# Altium integrated library Actel ACT 3.IntLib: 322 symbols (part 8 of 21)
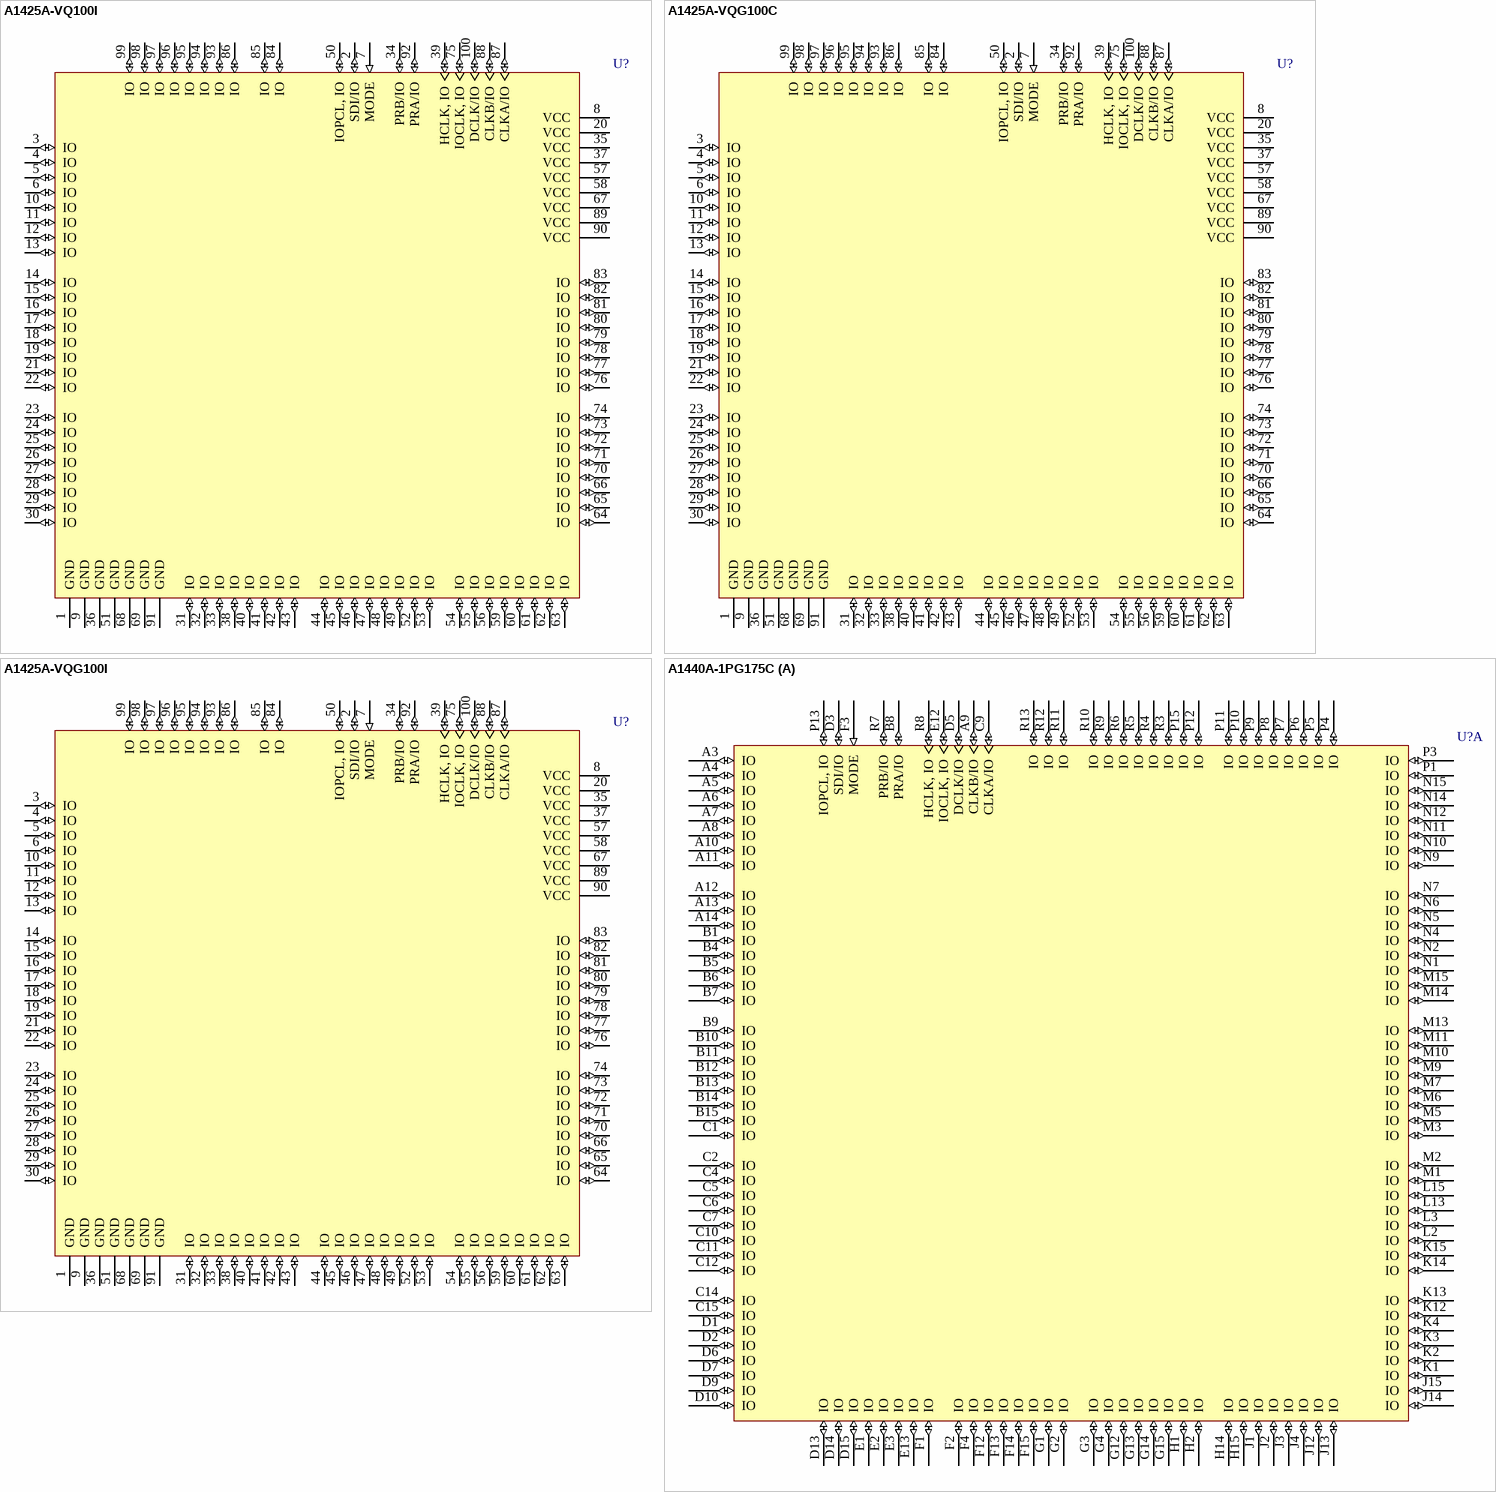
[diagram p224: symbols A1425A-VQ100I to A1440A-1PG175C]

## A1425A-VQG100I
designator U?
ACT 3 Series 5V FPGA, 83 User I/Os, 100 pin Very Thin QFP, Standard Speed Grade, Industrial Grade, Pb-Free; Published: 11-Dec-2009; DatasheetVersion: Sep-1997; PackageVersion: ver11.2, Nov-2009; PackageReference: VQ100; Publisher: Altium Limited; PackageDescription: 100-Pin Plastic Quad Flat Pack (VQ100); Code_JEDEC: MS-026-AED; ComponentLink1Description: ACT3 Datasheet; ComponentLink1URL: http://www.actel.com/documents/ACT3_DS.pdf; ComponentLink2Description: Package Mechanical Drawings; ComponentLink2URL: http://www.actel.com/documents/PckgMechDrwngs.pdf; ComponentLink3Description: Legacy FPGA Documents; ComponentLink3URL: http://www.actel.com/techdocs/ds/legacy.aspx
footprint VQ100_N (Thin QFP, 100-Leads, Body 14x14mm, Pitch 0.5mm, IPC Medium Density)
footprint VQ100_L (Thin QFP, 100-Leads, Body 14x14mm, Pitch 0.5mm, IPC High Density)
footprint VQ100_M (Thin QFP, 100-Leads, Body 14x14mm, Pitch 0.5mm, IPC Low Density)
pins: 1 GND (power), 2 SDI/IO (io), 3 IO (io), 4 IO (io), 5 IO (io), 6 IO (io), 7 MODE (in), 8 VCC (power), 9 GND (power), 10 IO (io), 11 IO (io), 12 IO (io), 13 IO (io), 14 IO (io), 15 IO (io), 16 IO (io), 17 IO (io), 18 IO (io), 19 IO (io), 20 VCC (power), 21 IO (io), 22 IO (io), 23 IO (io), 24 IO (io), 25 IO (io), 26 IO (io), 27 IO (io), 28 IO (io), 29 IO (io), 30 IO (io), 31 IO (io), 32 IO (io), 33 IO (io), 34 PRB/IO (io), 35 VCC (power), 36 GND (power), 37 VCC (power), 38 IO (io), 39 HCLK, IO (io), 40 IO (io), 41 IO (io), 42 IO (io), 43 IO (io), 44 IO (io), 45 IO (io), 46 IO (io), 47 IO (io), 48 IO (io), 49 IO (io), 50 IOPCL, IO (io), 51 GND (power), 52 IO (io), 53 IO (io), 54 IO (io), 55 IO (io), 56 IO (io), 57 VCC (power), 58 VCC (power), 59 IO (io), 60 IO (io), 61 IO (io), 62 IO (io), 63 IO (io), 64 IO (io), 65 IO (io), 66 IO (io), 67 VCC (power), 68 GND (power), 69 GND (power), 70 IO (io), 71 IO (io), 72 IO (io), 73 IO (io), 74 IO (io), 75 IOCLK, IO (io), 76 IO (io), 77 IO (io), 78 IO (io), 79 IO (io), 80 IO (io), 81 IO (io), 82 IO (io), 83 IO (io), 84 IO (io), 85 IO (io), 86 IO (io), 87 CLKA/IO (io), 88 CLKB/IO (io), 89 VCC (power), 90 VCC (power), 91 GND (power), 92 PRA/IO (io), 93 IO (io), 94 IO (io), 95 IO (io), 96 IO (io), 97 IO (io), 98 IO (io), 99 IO (io), 100 DCLK/IO (io)

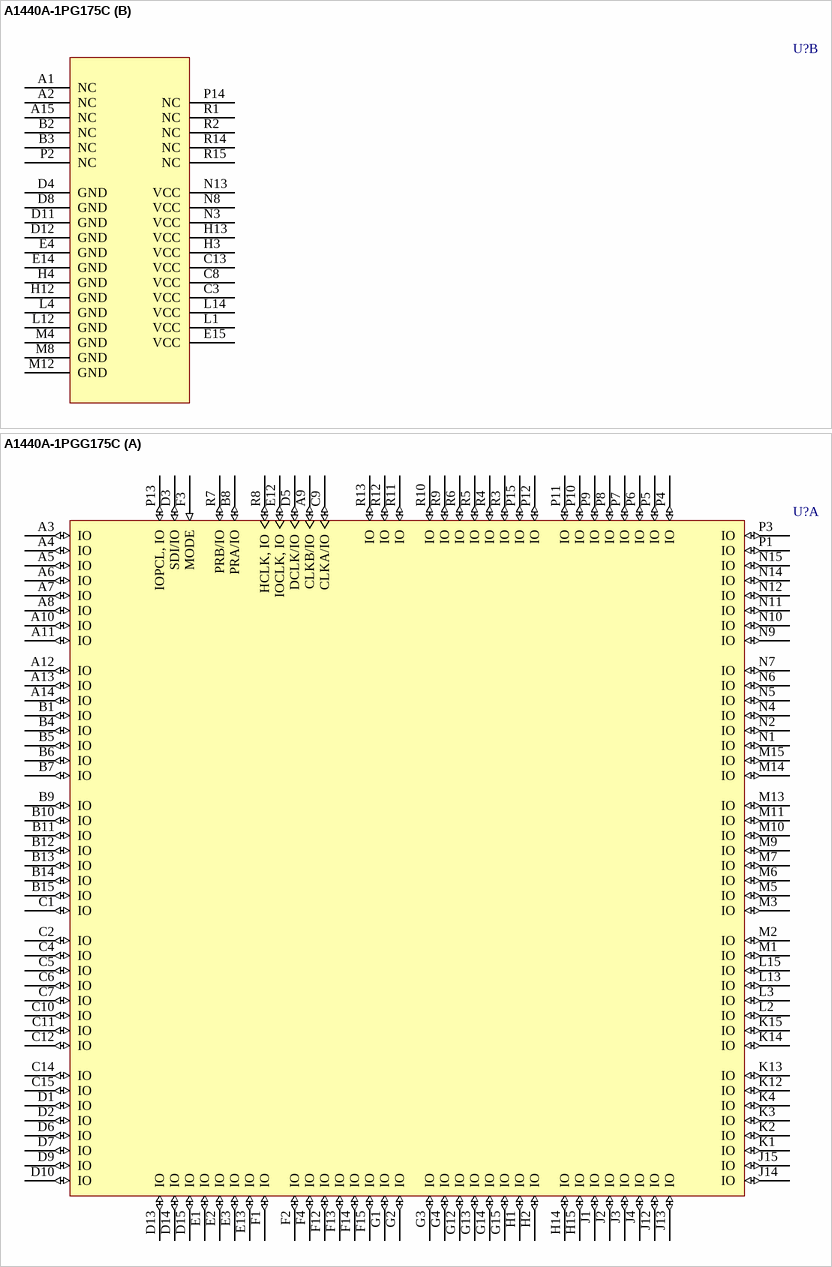
[diagram p45: symbols A1440A-1PG175C to A1440A-1PGG175C]

## A1440A-1PG175C
designator U?
ACT 3 Series 5V FPGA, 140 User I/Os, 175 pin CPGA, Speed Grade 1, Commercial Grade; Published: 24-Nov-2000; LatestRevisionDate: 04-Mar-2005; LatestRevisionNote: Stylized 3D Model Added.; DatasheetVersion: Sep-1997; PackageVersion: ver11.2, Nov-2009; PackageReference: PG175; Publisher: Altium Limited; PackageDescription: 175-Pin Ceramic Pin Grid Array (PG175); ComponentLink1Description: ACT3 Datasheet; ComponentLink1URL: http://www.actel.com/documents/ACT3_DS.pdf; ComponentLink2Description: Package Mechanical Drawings; ComponentLink2URL: http://www.actel.com/documents/PckgMechDrwngs.pdf; ComponentLink3Description: Legacy FPGA Documents; ComponentLink3URL: http://www.actel.com/techdocs/ds/legacy.aspx
footprint PG175 (PGA, 176-Leads, Body 39.9x39.9mm, Pitch 2.54mm)
part A pins: A3 IO (io), A4 IO (io), A5 IO (io), A6 IO (io), A7 IO (io), A8 IO (io), A9 CLKB/IO (io), A10 IO (io), A11 IO (io), A12 IO (io), A13 IO (io), A14 IO (io), B1 IO (io), B4 IO (io), B5 IO (io), B6 IO (io), B7 IO (io), B8 PRA/IO (io), B9 IO (io), B10 IO (io), B11 IO (io), B12 IO (io), B13 IO (io), B14 IO (io), B15 IO (io), C1 IO (io), C2 IO (io), C4 IO (io), C5 IO (io), C6 IO (io), C7 IO (io), C9 CLKA/IO (io), C10 IO (io), C11 IO (io), C12 IO (io), C14 IO (io), C15 IO (io), D1 IO (io), D2 IO (io), D3 SDI/IO (io), D5 DCLK/IO (io), D6 IO (io), D7 IO (io), D9 IO (io), D10 IO (io), D13 IO (io), D14 IO (io), D15 IO (io), E1 IO (io), E2 IO (io), E3 IO (io), E12 IOCLK, IO (io), E13 IO (io), F1 IO (io), F2 IO (io), F3 MODE (in), F4 IO (io), F12 IO (io), F13 IO (io), F14 IO (io), F15 IO (io), G1 IO (io), G2 IO (io), G3 IO (io), G4 IO (io), G12 IO (io), G13 IO (io), G14 IO (io), G15 IO (io), H1 IO (io), H2 IO (io), H14 IO (io), H15 IO (io), J1 IO (io), J2 IO (io), J3 IO (io), J4 IO (io), J12 IO (io), J13 IO (io), J14 IO (io), J15 IO (io), K1 IO (io), K2 IO (io), K3 IO (io), K4 IO (io), K12 IO (io), K13 IO (io), K14 IO (io), K15 IO (io), L2 IO (io), L3 IO (io), L13 IO (io), L15 IO (io), M1 IO (io), M2 IO (io), M3 IO (io), M5 IO (io), M6 IO (io), M7 IO (io), M9 IO (io), M10 IO (io), M11 IO (io), M13 IO (io), M14 IO (io), M15 IO (io), N1 IO (io), N2 IO (io), N4 IO (io), N5 IO (io), N6 IO (io), N7 IO (io), N9 IO (io), N10 IO (io), N11 IO (io), N12 IO (io), N14 IO (io), N15 IO (io), P1 IO (io), P3 IO (io), P4 IO (io), P5 IO (io), P6 IO (io), P7 IO (io), P8 IO (io), P9 IO (io), P10 IO (io), P11 IO (io), P12 IO (io), P13 IOPCL, IO (io), P15 IO (io), R3 IO (io), R4 IO (io), R5 IO (io), R6 IO (io), R7 PRB/IO (io), R8 HCLK, IO (io), R9 IO (io), R10 IO (io), R11 IO (io), R12 IO (io), R13 IO (io)
part B pins: A1 NC, A2 NC, A15 NC, B2 NC, B3 NC, C3 VCC (power), C8 VCC (power), C13 VCC (power), D4 GND (power), D8 GND (power), D11 GND (power), D12 GND (power), E4 GND (power), E14 GND (power), E15 VCC (power), H3 VCC (power), H4 GND (power), H12 GND (power), H13 VCC (power), L1 VCC (power), L4 GND (power), L12 GND (power), L14 VCC (power), M4 GND (power), M8 GND (power), M12 GND (power), N3 VCC (power), N8 VCC (power), N13 VCC (power), P2 NC, P14 NC, R1 NC, R2 NC, R14 NC, R15 NC

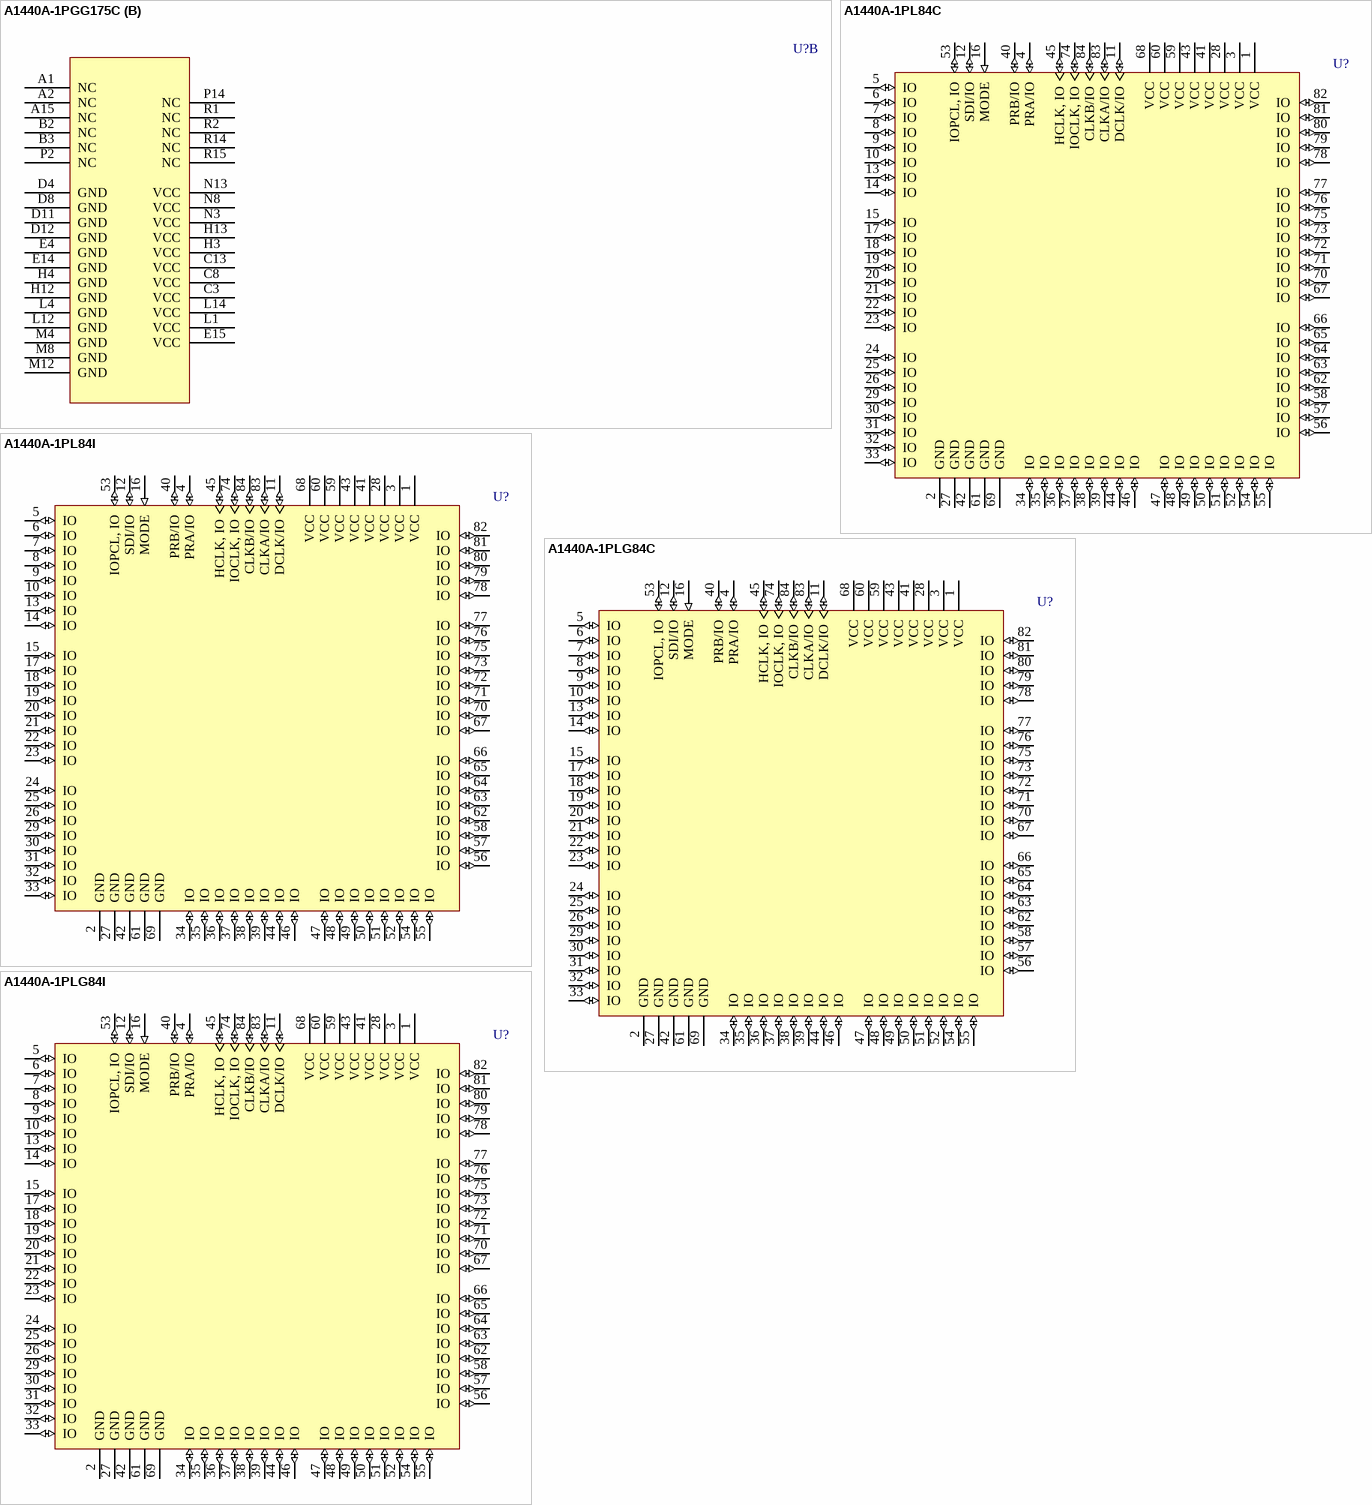
[diagram p46: symbols A1440A-1PGG175C to A1440A-1PLG84I]

## A1440A-1PGG175C
designator U?
ACT 3 Series 5V FPGA, 140 User I/Os, 175 pin CPGA, Speed Grade 1, Commercial Grade, Pb-Free; Published: 11-Dec-2009; DatasheetVersion: Sep-1997; PackageVersion: ver11.2, Nov-2009; PackageReference: PG175; Publisher: Altium Limited; PackageDescription: 175-Pin Ceramic Pin Grid Array (PG175); ComponentLink1Description: ACT3 Datasheet; ComponentLink1URL: http://www.actel.com/documents/ACT3_DS.pdf; ComponentLink2Description: Package Mechanical Drawings; ComponentLink2URL: http://www.actel.com/documents/PckgMechDrwngs.pdf; ComponentLink3Description: Legacy FPGA Documents; ComponentLink3URL: http://www.actel.com/techdocs/ds/legacy.aspx
footprint PG175 (PGA, 176-Leads, Body 39.9x39.9mm, Pitch 2.54mm)
part A pins: A3 IO (io), A4 IO (io), A5 IO (io), A6 IO (io), A7 IO (io), A8 IO (io), A9 CLKB/IO (io), A10 IO (io), A11 IO (io), A12 IO (io), A13 IO (io), A14 IO (io), B1 IO (io), B4 IO (io), B5 IO (io), B6 IO (io), B7 IO (io), B8 PRA/IO (io), B9 IO (io), B10 IO (io), B11 IO (io), B12 IO (io), B13 IO (io), B14 IO (io), B15 IO (io), C1 IO (io), C2 IO (io), C4 IO (io), C5 IO (io), C6 IO (io), C7 IO (io), C9 CLKA/IO (io), C10 IO (io), C11 IO (io), C12 IO (io), C14 IO (io), C15 IO (io), D1 IO (io), D2 IO (io), D3 SDI/IO (io), D5 DCLK/IO (io), D6 IO (io), D7 IO (io), D9 IO (io), D10 IO (io), D13 IO (io), D14 IO (io), D15 IO (io), E1 IO (io), E2 IO (io), E3 IO (io), E12 IOCLK, IO (io), E13 IO (io), F1 IO (io), F2 IO (io), F3 MODE (in), F4 IO (io), F12 IO (io), F13 IO (io), F14 IO (io), F15 IO (io), G1 IO (io), G2 IO (io), G3 IO (io), G4 IO (io), G12 IO (io), G13 IO (io), G14 IO (io), G15 IO (io), H1 IO (io), H2 IO (io), H14 IO (io), H15 IO (io), J1 IO (io), J2 IO (io), J3 IO (io), J4 IO (io), J12 IO (io), J13 IO (io), J14 IO (io), J15 IO (io), K1 IO (io), K2 IO (io), K3 IO (io), K4 IO (io), K12 IO (io), K13 IO (io), K14 IO (io), K15 IO (io), L2 IO (io), L3 IO (io), L13 IO (io), L15 IO (io), M1 IO (io), M2 IO (io), M3 IO (io), M5 IO (io), M6 IO (io), M7 IO (io), M9 IO (io), M10 IO (io), M11 IO (io), M13 IO (io), M14 IO (io), M15 IO (io), N1 IO (io), N2 IO (io), N4 IO (io), N5 IO (io), N6 IO (io), N7 IO (io), N9 IO (io), N10 IO (io), N11 IO (io), N12 IO (io), N14 IO (io), N15 IO (io), P1 IO (io), P3 IO (io), P4 IO (io), P5 IO (io), P6 IO (io), P7 IO (io), P8 IO (io), P9 IO (io), P10 IO (io), P11 IO (io), P12 IO (io), P13 IOPCL, IO (io), P15 IO (io), R3 IO (io), R4 IO (io), R5 IO (io), R6 IO (io), R7 PRB/IO (io), R8 HCLK, IO (io), R9 IO (io), R10 IO (io), R11 IO (io), R12 IO (io), R13 IO (io)
part B pins: A1 NC, A2 NC, A15 NC, B2 NC, B3 NC, C3 VCC (power), C8 VCC (power), C13 VCC (power), D4 GND (power), D8 GND (power), D11 GND (power), D12 GND (power), E4 GND (power), E14 GND (power), E15 VCC (power), H3 VCC (power), H4 GND (power), H12 GND (power), H13 VCC (power), L1 VCC (power), L4 GND (power), L12 GND (power), L14 VCC (power), M4 GND (power), M8 GND (power), M12 GND (power), N3 VCC (power), N8 VCC (power), N13 VCC (power), P2 NC, P14 NC, R1 NC, R2 NC, R14 NC, R15 NC

## A1440A-1PL84C
designator U?
ACT 3 Series 5V FPGA, 70 User I/Os, 84 pin PLCC, Speed Grade 1, Commercial Grade; Published: 24-Nov-2000; LatestRevisionDate: 13-Apr-2006; LatestRevisionNote: IPC-7351 Footprint Added.; DatasheetVersion: Sep-1997; PackageVersion: ver11.2, Nov-2009; PackageReference: PL84; Publisher: Altium Limited; PackageDescription: 84-Pin Plastic Leaded Chip Carrier (PL84); Code_JEDEC: MS-018-AF; Code_IPC: PLCC-84; ComponentLink1Description: ACT3 Datasheet; ComponentLink1URL: http://www.actel.com/documents/ACT3_DS.pdf; ComponentLink2Description: Package Mechanical Drawings; ComponentLink2URL: http://www.actel.com/documents/PckgMechDrwngs.pdf; ComponentLink3Description: Legacy FPGA Documents; ComponentLink3URL: http://www.actel.com/techdocs/ds/legacy.aspx
footprint PL84_N (Leaded Chip Carrier, 84-Leads, Body 29.3x29.3mm, Pitch 1.27mm, IPC Medium Density)
footprint PL84_L (Leaded Chip Carrier, 84-Leads, Body 29.3x29.3mm, Pitch 1.27mm, IPC High Density)
footprint PL84_M (Leaded Chip Carrier, 84-Leads, Body 29.3x29.3mm, Pitch 1.27mm, IPC Low Density)
pins: 1 VCC (power), 2 GND (power), 3 VCC (power), 4 PRA/IO (io), 5 IO (io), 6 IO (io), 7 IO (io), 8 IO (io), 9 IO (io), 10 IO (io), 11 DCLK/IO (io), 12 SDI/IO (io), 13 IO (io), 14 IO (io), 15 IO (io), 16 MODE (in), 17 IO (io), 18 IO (io), 19 IO (io), 20 IO (io), 21 IO (io), 22 IO (io), 23 IO (io), 24 IO (io), 25 IO (io), 26 IO (io), 27 GND (power), 28 VCC (power), 29 IO (io), 30 IO (io), 31 IO (io), 32 IO (io), 33 IO (io), 34 IO (io), 35 IO (io), 36 IO (io), 37 IO (io), 38 IO (io), 39 IO (io), 40 PRB/IO (io), 41 VCC (power), 42 GND (power), 43 VCC (power), 44 IO (io), 45 HCLK, IO (io), 46 IO (io), 47 IO (io), 48 IO (io), 49 IO (io), 50 IO (io), 51 IO (io), 52 IO (io), 53 IOPCL, IO (io), 54 IO (io), 55 IO (io), 56 IO (io), 57 IO (io), 58 IO (io), 59 VCC (power), 60 VCC (power), 61 GND (power), 62 IO (io), 63 IO (io), 64 IO (io), 65 IO (io), 66 IO (io), 67 IO (io), 68 VCC (power), 69 GND (power), 70 IO (io), 71 IO (io), 72 IO (io), 73 IO (io), 74 IOCLK, IO (io), 75 IO (io), 76 IO (io), 77 IO (io), 78 IO (io), 79 IO (io), 80 IO (io), 81 IO (io), 82 IO (io), 83 CLKA/IO (io), 84 CLKB/IO (io)

## A1440A-1PL84I
designator U?
ACT 3 Series 5V FPGA, 70 User I/Os, 84 pin PLCC, Speed Grade 1, Industrial Grade; Published: 24-Nov-2000; LatestRevisionDate: 13-Apr-2006; LatestRevisionNote: IPC-7351 Footprint Added.; DatasheetVersion: Sep-1997; PackageVersion: ver11.2, Nov-2009; PackageReference: PL84; Publisher: Altium Limited; PackageDescription: 84-Pin Plastic Leaded Chip Carrier (PL84); Code_JEDEC: MS-018-AF; Code_IPC: PLCC-84; ComponentLink1Description: ACT3 Datasheet; ComponentLink1URL: http://www.actel.com/documents/ACT3_DS.pdf; ComponentLink2Description: Package Mechanical Drawings; ComponentLink2URL: http://www.actel.com/documents/PckgMechDrwngs.pdf; ComponentLink3Description: Legacy FPGA Documents; ComponentLink3URL: http://www.actel.com/techdocs/ds/legacy.aspx
footprint PL84_N (Leaded Chip Carrier, 84-Leads, Body 29.3x29.3mm, Pitch 1.27mm, IPC Medium Density)
footprint PL84_L (Leaded Chip Carrier, 84-Leads, Body 29.3x29.3mm, Pitch 1.27mm, IPC High Density)
footprint PL84_M (Leaded Chip Carrier, 84-Leads, Body 29.3x29.3mm, Pitch 1.27mm, IPC Low Density)
pins: 1 VCC (power), 2 GND (power), 3 VCC (power), 4 PRA/IO (io), 5 IO (io), 6 IO (io), 7 IO (io), 8 IO (io), 9 IO (io), 10 IO (io), 11 DCLK/IO (io), 12 SDI/IO (io), 13 IO (io), 14 IO (io), 15 IO (io), 16 MODE (in), 17 IO (io), 18 IO (io), 19 IO (io), 20 IO (io), 21 IO (io), 22 IO (io), 23 IO (io), 24 IO (io), 25 IO (io), 26 IO (io), 27 GND (power), 28 VCC (power), 29 IO (io), 30 IO (io), 31 IO (io), 32 IO (io), 33 IO (io), 34 IO (io), 35 IO (io), 36 IO (io), 37 IO (io), 38 IO (io), 39 IO (io), 40 PRB/IO (io), 41 VCC (power), 42 GND (power), 43 VCC (power), 44 IO (io), 45 HCLK, IO (io), 46 IO (io), 47 IO (io), 48 IO (io), 49 IO (io), 50 IO (io), 51 IO (io), 52 IO (io), 53 IOPCL, IO (io), 54 IO (io), 55 IO (io), 56 IO (io), 57 IO (io), 58 IO (io), 59 VCC (power), 60 VCC (power), 61 GND (power), 62 IO (io), 63 IO (io), 64 IO (io), 65 IO (io), 66 IO (io), 67 IO (io), 68 VCC (power), 69 GND (power), 70 IO (io), 71 IO (io), 72 IO (io), 73 IO (io), 74 IOCLK, IO (io), 75 IO (io), 76 IO (io), 77 IO (io), 78 IO (io), 79 IO (io), 80 IO (io), 81 IO (io), 82 IO (io), 83 CLKA/IO (io), 84 CLKB/IO (io)

## A1440A-1PLG84C
designator U?
ACT 3 Series 5V FPGA, 70 User I/Os, 84 pin PLCC, Speed Grade 1, Commercial Grade, Pb-Free; Published: 11-Dec-2009; DatasheetVersion: Sep-1997; PackageVersion: ver11.2, Nov-2009; PackageReference: PL84; Publisher: Altium Limited; PackageDescription: 84-Pin Plastic Leaded Chip Carrier (PL84); Code_JEDEC: MS-018-AF; Code_IPC: PLCC-84; ComponentLink1Description: ACT3 Datasheet; ComponentLink1URL: http://www.actel.com/documents/ACT3_DS.pdf; ComponentLink2Description: Package Mechanical Drawings; ComponentLink2URL: http://www.actel.com/documents/PckgMechDrwngs.pdf; ComponentLink3Description: Legacy FPGA Documents; ComponentLink3URL: http://www.actel.com/techdocs/ds/legacy.aspx
footprint PL84_N (Leaded Chip Carrier, 84-Leads, Body 29.3x29.3mm, Pitch 1.27mm, IPC Medium Density)
footprint PL84_L (Leaded Chip Carrier, 84-Leads, Body 29.3x29.3mm, Pitch 1.27mm, IPC High Density)
footprint PL84_M (Leaded Chip Carrier, 84-Leads, Body 29.3x29.3mm, Pitch 1.27mm, IPC Low Density)
pins: 1 VCC (power), 2 GND (power), 3 VCC (power), 4 PRA/IO (io), 5 IO (io), 6 IO (io), 7 IO (io), 8 IO (io), 9 IO (io), 10 IO (io), 11 DCLK/IO (io), 12 SDI/IO (io), 13 IO (io), 14 IO (io), 15 IO (io), 16 MODE (in), 17 IO (io), 18 IO (io), 19 IO (io), 20 IO (io), 21 IO (io), 22 IO (io), 23 IO (io), 24 IO (io), 25 IO (io), 26 IO (io), 27 GND (power), 28 VCC (power), 29 IO (io), 30 IO (io), 31 IO (io), 32 IO (io), 33 IO (io), 34 IO (io), 35 IO (io), 36 IO (io), 37 IO (io), 38 IO (io), 39 IO (io), 40 PRB/IO (io), 41 VCC (power), 42 GND (power), 43 VCC (power), 44 IO (io), 45 HCLK, IO (io), 46 IO (io), 47 IO (io), 48 IO (io), 49 IO (io), 50 IO (io), 51 IO (io), 52 IO (io), 53 IOPCL, IO (io), 54 IO (io), 55 IO (io), 56 IO (io), 57 IO (io), 58 IO (io), 59 VCC (power), 60 VCC (power), 61 GND (power), 62 IO (io), 63 IO (io), 64 IO (io), 65 IO (io), 66 IO (io), 67 IO (io), 68 VCC (power), 69 GND (power), 70 IO (io), 71 IO (io), 72 IO (io), 73 IO (io), 74 IOCLK, IO (io), 75 IO (io), 76 IO (io), 77 IO (io), 78 IO (io), 79 IO (io), 80 IO (io), 81 IO (io), 82 IO (io), 83 CLKA/IO (io), 84 CLKB/IO (io)

## A1440A-1PLG84I
designator U?
ACT 3 Series 5V FPGA, 70 User I/Os, 84 pin PLCC, Speed Grade 1, Industrial Grade, Pb-Free; Published: 11-Dec-2009; DatasheetVersion: Sep-1997; PackageVersion: ver11.2, Nov-2009; PackageReference: PL84; Publisher: Altium Limited; PackageDescription: 84-Pin Plastic Leaded Chip Carrier (PL84); Code_JEDEC: MS-018-AF; Code_IPC: PLCC-84; ComponentLink1Description: ACT3 Datasheet; ComponentLink1URL: http://www.actel.com/documents/ACT3_DS.pdf; ComponentLink2Description: Package Mechanical Drawings; ComponentLink2URL: http://www.actel.com/documents/PckgMechDrwngs.pdf; ComponentLink3Description: Legacy FPGA Documents; ComponentLink3URL: http://www.actel.com/techdocs/ds/legacy.aspx
footprint PL84_N (Leaded Chip Carrier, 84-Leads, Body 29.3x29.3mm, Pitch 1.27mm, IPC Medium Density)
footprint PL84_L (Leaded Chip Carrier, 84-Leads, Body 29.3x29.3mm, Pitch 1.27mm, IPC High Density)
footprint PL84_M (Leaded Chip Carrier, 84-Leads, Body 29.3x29.3mm, Pitch 1.27mm, IPC Low Density)
pins: 1 VCC (power), 2 GND (power), 3 VCC (power), 4 PRA/IO (io), 5 IO (io), 6 IO (io), 7 IO (io), 8 IO (io), 9 IO (io), 10 IO (io), 11 DCLK/IO (io), 12 SDI/IO (io), 13 IO (io), 14 IO (io), 15 IO (io), 16 MODE (in), 17 IO (io), 18 IO (io), 19 IO (io), 20 IO (io), 21 IO (io), 22 IO (io), 23 IO (io), 24 IO (io), 25 IO (io), 26 IO (io), 27 GND (power), 28 VCC (power), 29 IO (io), 30 IO (io), 31 IO (io), 32 IO (io), 33 IO (io), 34 IO (io), 35 IO (io), 36 IO (io), 37 IO (io), 38 IO (io), 39 IO (io), 40 PRB/IO (io), 41 VCC (power), 42 GND (power), 43 VCC (power), 44 IO (io), 45 HCLK, IO (io), 46 IO (io), 47 IO (io), 48 IO (io), 49 IO (io), 50 IO (io), 51 IO (io), 52 IO (io), 53 IOPCL, IO (io), 54 IO (io), 55 IO (io), 56 IO (io), 57 IO (io), 58 IO (io), 59 VCC (power), 60 VCC (power), 61 GND (power), 62 IO (io), 63 IO (io), 64 IO (io), 65 IO (io), 66 IO (io), 67 IO (io), 68 VCC (power), 69 GND (power), 70 IO (io), 71 IO (io), 72 IO (io), 73 IO (io), 74 IOCLK, IO (io), 75 IO (io), 76 IO (io), 77 IO (io), 78 IO (io), 79 IO (io), 80 IO (io), 81 IO (io), 82 IO (io), 83 CLKA/IO (io), 84 CLKB/IO (io)

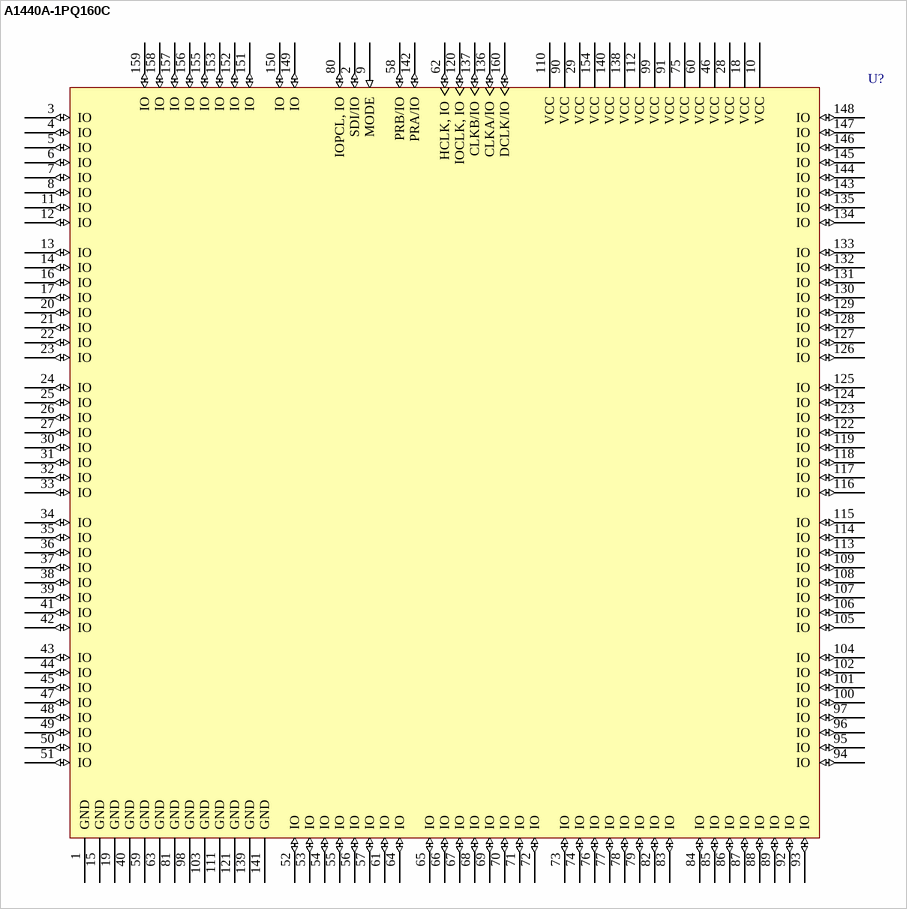
[diagram p47: symbol A1440A-1PQ160C]

## A1440A-1PQ160C
designator U?
ACT 3 Series 5V FPGA, 131 User I/Os, 160 pin PQFP, Speed Grade 1, Commercial Grade; Published: 24-Nov-2000; LatestRevisionDate: 13-Apr-2006; LatestRevisionNote: IPC-7351 Footprint Added.; DatasheetVersion: Sep-1997; PackageVersion: ver11.2, Nov-2009; PackageReference: PQ160; Publisher: Altium Limited; PackageDescription: 160-Pin Plastic Quad Flat Pack (PQ160); Code_JEDEC: MS-022-DD-1; Code_IPC: QFP65P3120X3120-160; ComponentLink1Description: ACT3 Datasheet; ComponentLink1URL: http://www.actel.com/documents/ACT3_DS.pdf; ComponentLink2Description: Package Mechanical Drawings; ComponentLink2URL: http://www.actel.com/documents/PckgMechDrwngs.pdf; ComponentLink3Description: Legacy FPGA Documents; ComponentLink3URL: http://www.actel.com/techdocs/ds/legacy.aspx
footprint PQ160_N (QFP, 160-Leads, Body 28x28mm, Pitch 0.65mm, IPC Medium Density)
footprint PQ160_L (QFP, 160-Leads, Body 28x28mm, Pitch 0.65mm, IPC High Density)
footprint PQ160_M (QFP, 160-Leads, Body 28x28mm, Pitch 0.65mm, IPC Low Density)
pins: 1 GND (power), 2 SDI/IO (io), 3 IO (io), 4 IO (io), 5 IO (io), 6 IO (io), 7 IO (io), 8 IO (io), 9 MODE (in), 10 VCC (power), 11 IO (io), 12 IO (io), 13 IO (io), 14 IO (io), 15 GND (power), 16 IO (io), 17 IO (io), 18 VCC (power), 19 GND (power), 20 IO (io), 21 IO (io), 22 IO (io), 23 IO (io), 24 IO (io), 25 IO (io), 26 IO (io), 27 IO (io), 28 VCC (power), 29 VCC (power), 30 IO (io), 31 IO (io), 32 IO (io), 33 IO (io), 34 IO (io), 35 IO (io), 36 IO (io), 37 IO (io), 38 IO (io), 39 IO (io), 40 GND (power), 41 IO (io), 42 IO (io), 43 IO (io), 44 IO (io), 45 IO (io), 46 VCC (power), 47 IO (io), 48 IO (io), 49 IO (io), 50 IO (io), 51 IO (io), 52 IO (io), 53 IO (io), 54 IO (io), 55 IO (io), 56 IO (io), 57 IO (io), 58 PRB/IO (io), 59 GND (power), 60 VCC (power), 61 IO (io), 62 HCLK, IO (io), 63 GND (power), 64 IO (io), 65 IO (io), 66 IO (io), 67 IO (io), 68 IO (io), 69 IO (io), 70 IO (io), 71 IO (io), 72 IO (io), 73 IO (io), 74 IO (io), 75 VCC (power), 76 IO (io), 77 IO (io), 78 IO (io), 79 IO (io), 80 IOPCL, IO (io), 81 GND (power), 82 IO (io), 83 IO (io), 84 IO (io), 85 IO (io), 86 IO (io), 87 IO (io), 88 IO (io), 89 IO (io), 90 VCC (power), 91 VCC (power), 92 IO (io), 93 IO (io), 94 IO (io), 95 IO (io), 96 IO (io), 97 IO (io), 98 GND (power), 99 VCC (power), 100 IO (io), 101 IO (io), 102 IO (io), 103 GND (power), 104 IO (io), 105 IO (io), 106 IO (io), 107 IO (io), 108 IO (io), 109 IO (io), 110 VCC (power), 111 GND (power), 112 VCC (power), 113 IO (io), 114 IO (io), 115 IO (io), 116 IO (io), 117 IO (io), 118 IO (io), 119 IO (io), 120 IOCLK, IO (io), 121 GND (power), 122 IO (io), 123 IO (io), 124 IO (io), 125 IO (io), 126 IO (io), 127 IO (io), 128 IO (io), 129 IO (io), 130 IO (io), 131 IO (io), 132 IO (io), 133 IO (io), 134 IO (io), 135 IO (io), 136 CLKA/IO (io), 137 CLKB/IO (io), 138 VCC (power), 139 GND (power), 140 VCC (power), 141 GND (power), 142 PRA/IO (io), 143 IO (io), 144 IO (io), 145 IO (io), 146 IO (io), 147 IO (io), 148 IO (io), 149 IO (io), 150 IO (io), 151 IO (io), 152 IO (io), 153 IO (io), 154 VCC (power), 155 IO (io), 156 IO (io), 157 IO (io), 158 IO (io), 159 IO (io), 160 DCLK/IO (io)

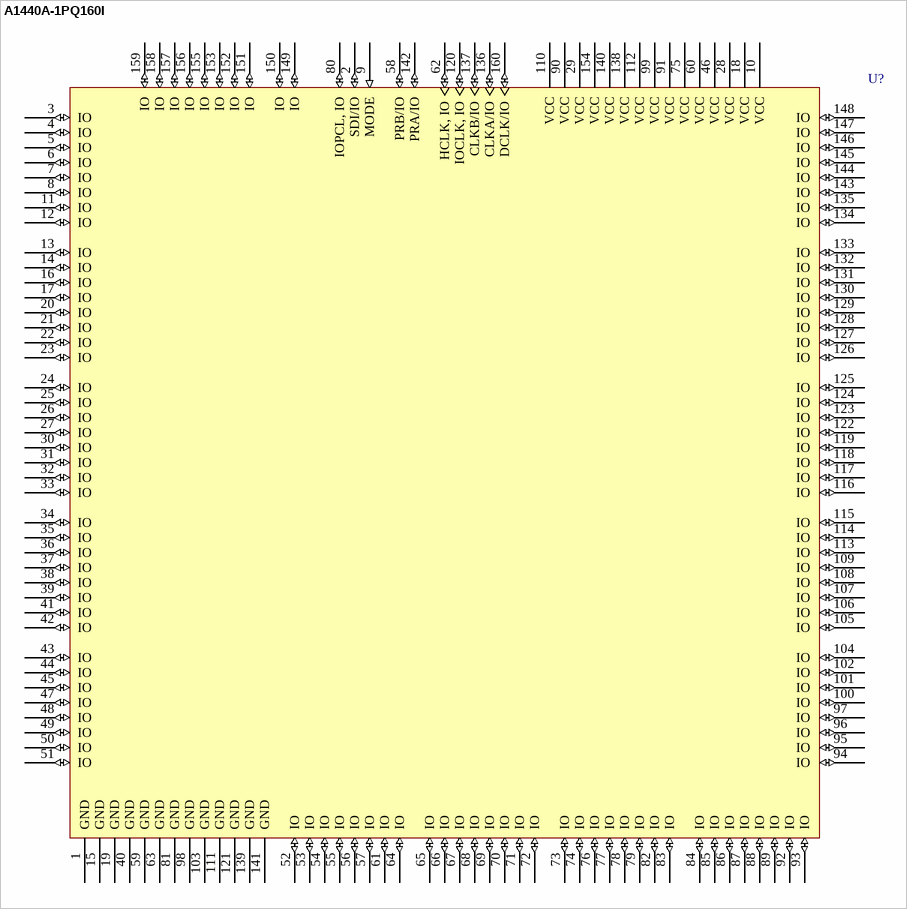
[diagram p48: symbol A1440A-1PQ160I]

## A1440A-1PQ160I
designator U?
ACT 3 Series 5V FPGA, 131 User I/Os, 160 pin PQFP, Speed Grade 1, Industrial Grade; Published: 24-Nov-2000; LatestRevisionDate: 13-Apr-2006; LatestRevisionNote: IPC-7351 Footprint Added.; DatasheetVersion: Sep-1997; PackageVersion: ver11.2, Nov-2009; PackageReference: PQ160; Publisher: Altium Limited; PackageDescription: 160-Pin Plastic Quad Flat Pack (PQ160); Code_JEDEC: MS-022-DD-1; Code_IPC: QFP65P3120X3120-160; ComponentLink1Description: ACT3 Datasheet; ComponentLink1URL: http://www.actel.com/documents/ACT3_DS.pdf; ComponentLink2Description: Package Mechanical Drawings; ComponentLink2URL: http://www.actel.com/documents/PckgMechDrwngs.pdf; ComponentLink3Description: Legacy FPGA Documents; ComponentLink3URL: http://www.actel.com/techdocs/ds/legacy.aspx
footprint PQ160_N (QFP, 160-Leads, Body 28x28mm, Pitch 0.65mm, IPC Medium Density)
footprint PQ160_L (QFP, 160-Leads, Body 28x28mm, Pitch 0.65mm, IPC High Density)
footprint PQ160_M (QFP, 160-Leads, Body 28x28mm, Pitch 0.65mm, IPC Low Density)
pins: 1 GND (power), 2 SDI/IO (io), 3 IO (io), 4 IO (io), 5 IO (io), 6 IO (io), 7 IO (io), 8 IO (io), 9 MODE (in), 10 VCC (power), 11 IO (io), 12 IO (io), 13 IO (io), 14 IO (io), 15 GND (power), 16 IO (io), 17 IO (io), 18 VCC (power), 19 GND (power), 20 IO (io), 21 IO (io), 22 IO (io), 23 IO (io), 24 IO (io), 25 IO (io), 26 IO (io), 27 IO (io), 28 VCC (power), 29 VCC (power), 30 IO (io), 31 IO (io), 32 IO (io), 33 IO (io), 34 IO (io), 35 IO (io), 36 IO (io), 37 IO (io), 38 IO (io), 39 IO (io), 40 GND (power), 41 IO (io), 42 IO (io), 43 IO (io), 44 IO (io), 45 IO (io), 46 VCC (power), 47 IO (io), 48 IO (io), 49 IO (io), 50 IO (io), 51 IO (io), 52 IO (io), 53 IO (io), 54 IO (io), 55 IO (io), 56 IO (io), 57 IO (io), 58 PRB/IO (io), 59 GND (power), 60 VCC (power), 61 IO (io), 62 HCLK, IO (io), 63 GND (power), 64 IO (io), 65 IO (io), 66 IO (io), 67 IO (io), 68 IO (io), 69 IO (io), 70 IO (io), 71 IO (io), 72 IO (io), 73 IO (io), 74 IO (io), 75 VCC (power), 76 IO (io), 77 IO (io), 78 IO (io), 79 IO (io), 80 IOPCL, IO (io), 81 GND (power), 82 IO (io), 83 IO (io), 84 IO (io), 85 IO (io), 86 IO (io), 87 IO (io), 88 IO (io), 89 IO (io), 90 VCC (power), 91 VCC (power), 92 IO (io), 93 IO (io), 94 IO (io), 95 IO (io), 96 IO (io), 97 IO (io), 98 GND (power), 99 VCC (power), 100 IO (io), 101 IO (io), 102 IO (io), 103 GND (power), 104 IO (io), 105 IO (io), 106 IO (io), 107 IO (io), 108 IO (io), 109 IO (io), 110 VCC (power), 111 GND (power), 112 VCC (power), 113 IO (io), 114 IO (io), 115 IO (io), 116 IO (io), 117 IO (io), 118 IO (io), 119 IO (io), 120 IOCLK, IO (io), 121 GND (power), 122 IO (io), 123 IO (io), 124 IO (io), 125 IO (io), 126 IO (io), 127 IO (io), 128 IO (io), 129 IO (io), 130 IO (io), 131 IO (io), 132 IO (io), 133 IO (io), 134 IO (io), 135 IO (io), 136 CLKA/IO (io), 137 CLKB/IO (io), 138 VCC (power), 139 GND (power), 140 VCC (power), 141 GND (power), 142 PRA/IO (io), 143 IO (io), 144 IO (io), 145 IO (io), 146 IO (io), 147 IO (io), 148 IO (io), 149 IO (io), 150 IO (io), 151 IO (io), 152 IO (io), 153 IO (io), 154 VCC (power), 155 IO (io), 156 IO (io), 157 IO (io), 158 IO (io), 159 IO (io), 160 DCLK/IO (io)

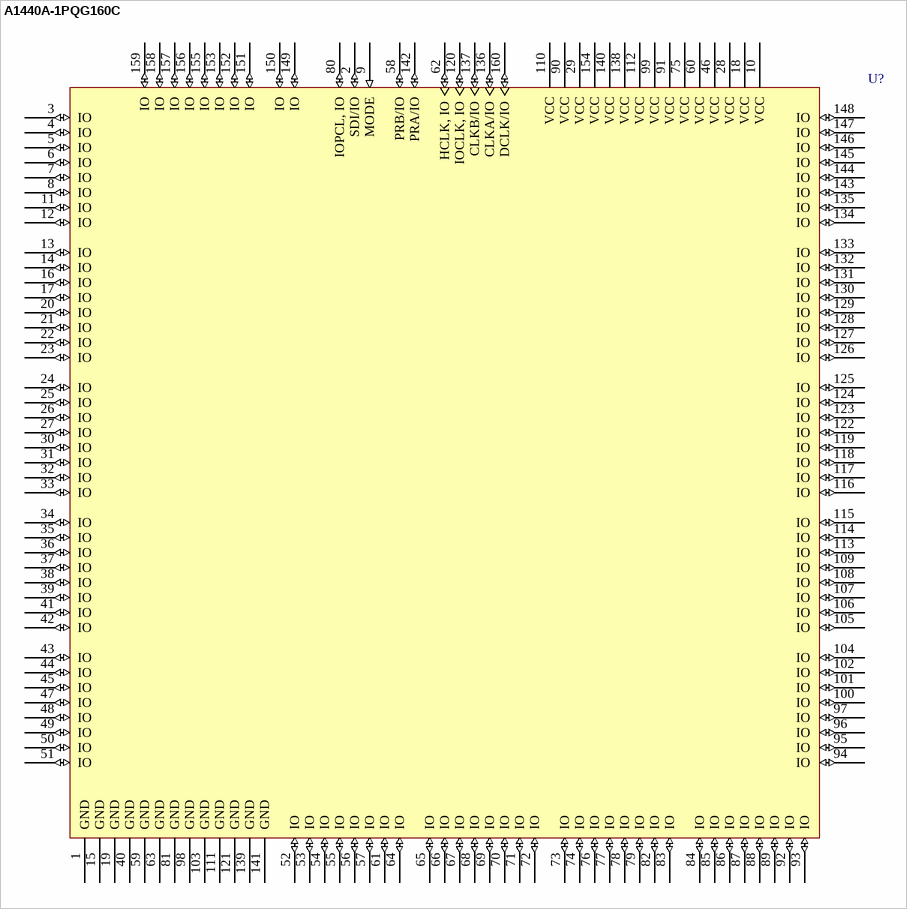
[diagram p49: symbol A1440A-1PQG160C]

## A1440A-1PQG160C
designator U?
ACT 3 Series 5V FPGA, 131 User I/Os, 160 pin PQFP, Speed Grade 1, Commercial Grade, Pb-Free; Published: 11-Dec-2009; DatasheetVersion: Sep-1997; PackageVersion: ver11.2, Nov-2009; PackageReference: PQ160; Publisher: Altium Limited; PackageDescription: 160-Pin Plastic Quad Flat Pack (PQ160); Code_JEDEC: MS-022-DD-1; Code_IPC: QFP65P3120X3120-160; ComponentLink1Description: ACT3 Datasheet; ComponentLink1URL: http://www.actel.com/documents/ACT3_DS.pdf; ComponentLink2Description: Package Mechanical Drawings; ComponentLink2URL: http://www.actel.com/documents/PckgMechDrwngs.pdf; ComponentLink3Description: Legacy FPGA Documents; ComponentLink3URL: http://www.actel.com/techdocs/ds/legacy.aspx
footprint PQ160_N (QFP, 160-Leads, Body 28x28mm, Pitch 0.65mm, IPC Medium Density)
footprint PQ160_L (QFP, 160-Leads, Body 28x28mm, Pitch 0.65mm, IPC High Density)
footprint PQ160_M (QFP, 160-Leads, Body 28x28mm, Pitch 0.65mm, IPC Low Density)
pins: 1 GND (power), 2 SDI/IO (io), 3 IO (io), 4 IO (io), 5 IO (io), 6 IO (io), 7 IO (io), 8 IO (io), 9 MODE (in), 10 VCC (power), 11 IO (io), 12 IO (io), 13 IO (io), 14 IO (io), 15 GND (power), 16 IO (io), 17 IO (io), 18 VCC (power), 19 GND (power), 20 IO (io), 21 IO (io), 22 IO (io), 23 IO (io), 24 IO (io), 25 IO (io), 26 IO (io), 27 IO (io), 28 VCC (power), 29 VCC (power), 30 IO (io), 31 IO (io), 32 IO (io), 33 IO (io), 34 IO (io), 35 IO (io), 36 IO (io), 37 IO (io), 38 IO (io), 39 IO (io), 40 GND (power), 41 IO (io), 42 IO (io), 43 IO (io), 44 IO (io), 45 IO (io), 46 VCC (power), 47 IO (io), 48 IO (io), 49 IO (io), 50 IO (io), 51 IO (io), 52 IO (io), 53 IO (io), 54 IO (io), 55 IO (io), 56 IO (io), 57 IO (io), 58 PRB/IO (io), 59 GND (power), 60 VCC (power), 61 IO (io), 62 HCLK, IO (io), 63 GND (power), 64 IO (io), 65 IO (io), 66 IO (io), 67 IO (io), 68 IO (io), 69 IO (io), 70 IO (io), 71 IO (io), 72 IO (io), 73 IO (io), 74 IO (io), 75 VCC (power), 76 IO (io), 77 IO (io), 78 IO (io), 79 IO (io), 80 IOPCL, IO (io), 81 GND (power), 82 IO (io), 83 IO (io), 84 IO (io), 85 IO (io), 86 IO (io), 87 IO (io), 88 IO (io), 89 IO (io), 90 VCC (power), 91 VCC (power), 92 IO (io), 93 IO (io), 94 IO (io), 95 IO (io), 96 IO (io), 97 IO (io), 98 GND (power), 99 VCC (power), 100 IO (io), 101 IO (io), 102 IO (io), 103 GND (power), 104 IO (io), 105 IO (io), 106 IO (io), 107 IO (io), 108 IO (io), 109 IO (io), 110 VCC (power), 111 GND (power), 112 VCC (power), 113 IO (io), 114 IO (io), 115 IO (io), 116 IO (io), 117 IO (io), 118 IO (io), 119 IO (io), 120 IOCLK, IO (io), 121 GND (power), 122 IO (io), 123 IO (io), 124 IO (io), 125 IO (io), 126 IO (io), 127 IO (io), 128 IO (io), 129 IO (io), 130 IO (io), 131 IO (io), 132 IO (io), 133 IO (io), 134 IO (io), 135 IO (io), 136 CLKA/IO (io), 137 CLKB/IO (io), 138 VCC (power), 139 GND (power), 140 VCC (power), 141 GND (power), 142 PRA/IO (io), 143 IO (io), 144 IO (io), 145 IO (io), 146 IO (io), 147 IO (io), 148 IO (io), 149 IO (io), 150 IO (io), 151 IO (io), 152 IO (io), 153 IO (io), 154 VCC (power), 155 IO (io), 156 IO (io), 157 IO (io), 158 IO (io), 159 IO (io), 160 DCLK/IO (io)

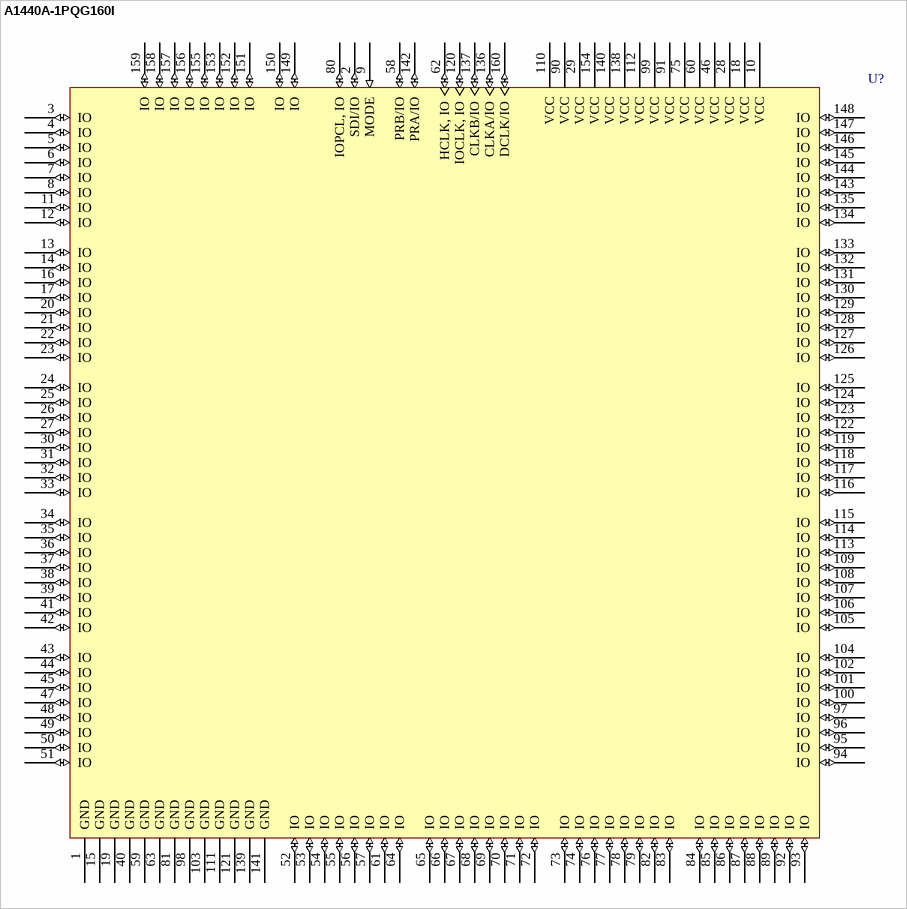
[diagram p50: symbol A1440A-1PQG160I]

## A1440A-1PQG160I
designator U?
ACT 3 Series 5V FPGA, 131 User I/Os, 160 pin PQFP, Speed Grade 1, Industrial Grade, Pb-Free; Published: 11-Dec-2009; DatasheetVersion: Sep-1997; PackageVersion: ver11.2, Nov-2009; PackageReference: PQ160; Publisher: Altium Limited; PackageDescription: 160-Pin Plastic Quad Flat Pack (PQ160); Code_JEDEC: MS-022-DD-1; Code_IPC: QFP65P3120X3120-160; ComponentLink1Description: ACT3 Datasheet; ComponentLink1URL: http://www.actel.com/documents/ACT3_DS.pdf; ComponentLink2Description: Package Mechanical Drawings; ComponentLink2URL: http://www.actel.com/documents/PckgMechDrwngs.pdf; ComponentLink3Description: Legacy FPGA Documents; ComponentLink3URL: http://www.actel.com/techdocs/ds/legacy.aspx
footprint PQ160_N (QFP, 160-Leads, Body 28x28mm, Pitch 0.65mm, IPC Medium Density)
footprint PQ160_L (QFP, 160-Leads, Body 28x28mm, Pitch 0.65mm, IPC High Density)
footprint PQ160_M (QFP, 160-Leads, Body 28x28mm, Pitch 0.65mm, IPC Low Density)
pins: 1 GND (power), 2 SDI/IO (io), 3 IO (io), 4 IO (io), 5 IO (io), 6 IO (io), 7 IO (io), 8 IO (io), 9 MODE (in), 10 VCC (power), 11 IO (io), 12 IO (io), 13 IO (io), 14 IO (io), 15 GND (power), 16 IO (io), 17 IO (io), 18 VCC (power), 19 GND (power), 20 IO (io), 21 IO (io), 22 IO (io), 23 IO (io), 24 IO (io), 25 IO (io), 26 IO (io), 27 IO (io), 28 VCC (power), 29 VCC (power), 30 IO (io), 31 IO (io), 32 IO (io), 33 IO (io), 34 IO (io), 35 IO (io), 36 IO (io), 37 IO (io), 38 IO (io), 39 IO (io), 40 GND (power), 41 IO (io), 42 IO (io), 43 IO (io), 44 IO (io), 45 IO (io), 46 VCC (power), 47 IO (io), 48 IO (io), 49 IO (io), 50 IO (io), 51 IO (io), 52 IO (io), 53 IO (io), 54 IO (io), 55 IO (io), 56 IO (io), 57 IO (io), 58 PRB/IO (io), 59 GND (power), 60 VCC (power), 61 IO (io), 62 HCLK, IO (io), 63 GND (power), 64 IO (io), 65 IO (io), 66 IO (io), 67 IO (io), 68 IO (io), 69 IO (io), 70 IO (io), 71 IO (io), 72 IO (io), 73 IO (io), 74 IO (io), 75 VCC (power), 76 IO (io), 77 IO (io), 78 IO (io), 79 IO (io), 80 IOPCL, IO (io), 81 GND (power), 82 IO (io), 83 IO (io), 84 IO (io), 85 IO (io), 86 IO (io), 87 IO (io), 88 IO (io), 89 IO (io), 90 VCC (power), 91 VCC (power), 92 IO (io), 93 IO (io), 94 IO (io), 95 IO (io), 96 IO (io), 97 IO (io), 98 GND (power), 99 VCC (power), 100 IO (io), 101 IO (io), 102 IO (io), 103 GND (power), 104 IO (io), 105 IO (io), 106 IO (io), 107 IO (io), 108 IO (io), 109 IO (io), 110 VCC (power), 111 GND (power), 112 VCC (power), 113 IO (io), 114 IO (io), 115 IO (io), 116 IO (io), 117 IO (io), 118 IO (io), 119 IO (io), 120 IOCLK, IO (io), 121 GND (power), 122 IO (io), 123 IO (io), 124 IO (io), 125 IO (io), 126 IO (io), 127 IO (io), 128 IO (io), 129 IO (io), 130 IO (io), 131 IO (io), 132 IO (io), 133 IO (io), 134 IO (io), 135 IO (io), 136 CLKA/IO (io), 137 CLKB/IO (io), 138 VCC (power), 139 GND (power), 140 VCC (power), 141 GND (power), 142 PRA/IO (io), 143 IO (io), 144 IO (io), 145 IO (io), 146 IO (io), 147 IO (io), 148 IO (io), 149 IO (io), 150 IO (io), 151 IO (io), 152 IO (io), 153 IO (io), 154 VCC (power), 155 IO (io), 156 IO (io), 157 IO (io), 158 IO (io), 159 IO (io), 160 DCLK/IO (io)

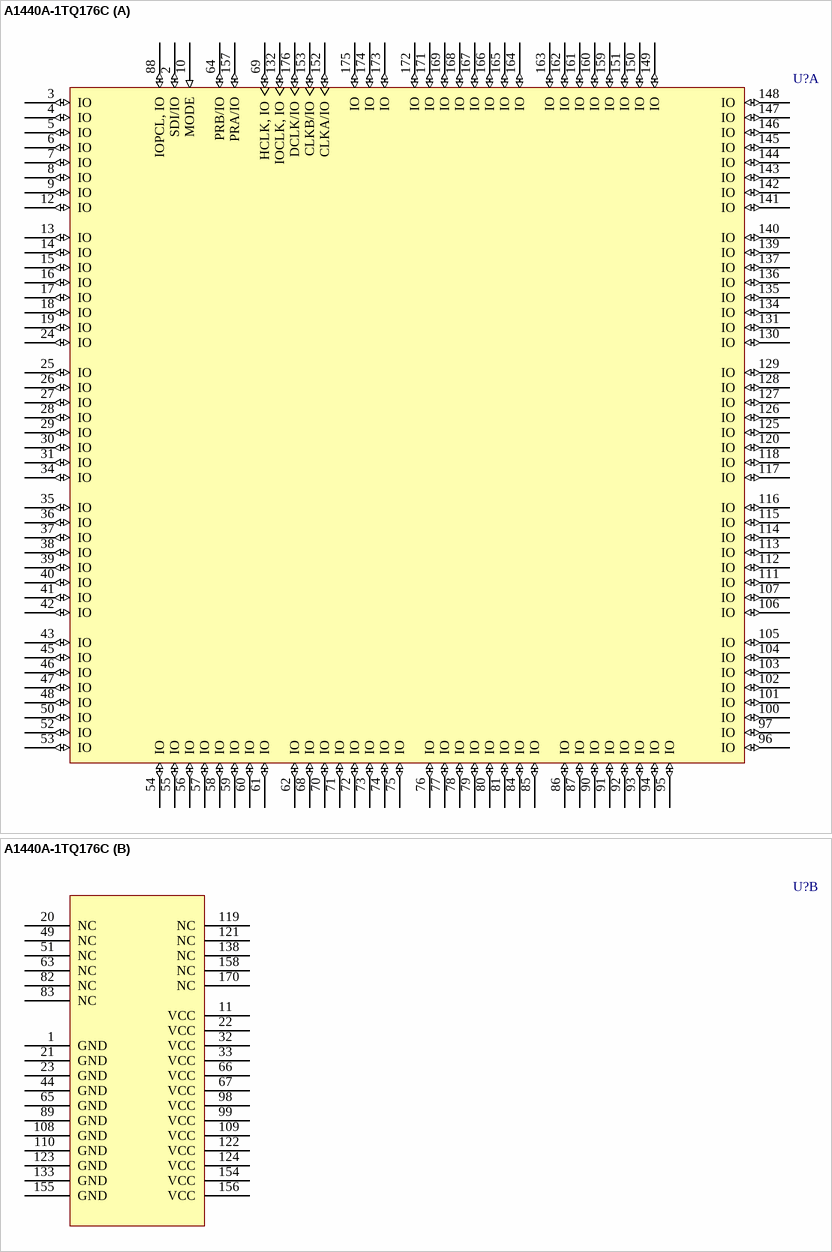
[diagram p51: symbol A1440A-1TQ176C]

## A1440A-1TQ176C
designator U?
ACT 3 Series 5V FPGA, 140 User I/Os, 176 pin TQFP, Speed Grade 1, Commercial Grade; Published: 24-Nov-2000; LatestRevisionDate: 13-Apr-2006; LatestRevisionNote: IPC-7351 Footprint Added.; DatasheetVersion: Sep-1997; PackageVersion: ver11.2, Nov-2009; PackageReference: TQ176; Publisher: Altium Limited; PackageDescription: 176-Pin Plastic Quad Flat Pack (TQ176); Code_JEDEC: MS-026-BCA; ComponentLink1Description: ACT3 Datasheet; ComponentLink1URL: http://www.actel.com/documents/ACT3_DS.pdf; ComponentLink2Description: Package Mechanical Drawings; ComponentLink2URL: http://www.actel.com/documents/PckgMechDrwngs.pdf; ComponentLink3Description: Legacy FPGA Documents; ComponentLink3URL: http://www.actel.com/techdocs/ds/legacy.aspx
footprint TQ176_N (Thin QFP, 176-Leads, Body 24x24mm, Pitch 0.5mm, IPC Medium Density)
footprint TQ176_L (Thin QFP, 176-Leads, Body 24x24mm, Pitch 0.5mm, IPC High Density)
footprint TQ176_M (Thin QFP, 176-Leads, Body 24x24mm, Pitch 0.5mm, IPC Low Density)
part A pins: 2 SDI/IO (io), 3 IO (io), 4 IO (io), 5 IO (io), 6 IO (io), 7 IO (io), 8 IO (io), 9 IO (io), 10 MODE (in), 12 IO (io), 13 IO (io), 14 IO (io), 15 IO (io), 16 IO (io), 17 IO (io), 18 IO (io), 19 IO (io), 24 IO (io), 25 IO (io), 26 IO (io), 27 IO (io), 28 IO (io), 29 IO (io), 30 IO (io), 31 IO (io), 34 IO (io), 35 IO (io), 36 IO (io), 37 IO (io), 38 IO (io), 39 IO (io), 40 IO (io), 41 IO (io), 42 IO (io), 43 IO (io), 45 IO (io), 46 IO (io), 47 IO (io), 48 IO (io), 50 IO (io), 52 IO (io), 53 IO (io), 54 IO (io), 55 IO (io), 56 IO (io), 57 IO (io), 58 IO (io), 59 IO (io), 60 IO (io), 61 IO (io), 62 IO (io), 64 PRB/IO (io), 68 IO (io), 69 HCLK, IO (io), 70 IO (io), 71 IO (io), 72 IO (io), 73 IO (io), 74 IO (io), 75 IO (io), 76 IO (io), 77 IO (io), 78 IO (io), 79 IO (io), 80 IO (io), 81 IO (io), 84 IO (io), 85 IO (io), 86 IO (io), 87 IO (io), 88 IOPCL, IO (io), 90 IO (io), 91 IO (io), 92 IO (io), 93 IO (io), 94 IO (io), 95 IO (io), 96 IO (io), 97 IO (io), 100 IO (io), 101 IO (io), 102 IO (io), 103 IO (io), 104 IO (io), 105 IO (io), 106 IO (io), 107 IO (io), 111 IO (io), 112 IO (io), 113 IO (io), 114 IO (io), 115 IO (io), 116 IO (io), 117 IO (io), 118 IO (io), 120 IO (io), 125 IO (io), 126 IO (io), 127 IO (io), 128 IO (io), 129 IO (io), 130 IO (io), 131 IO (io), 132 IOCLK, IO (io), 134 IO (io), 135 IO (io), 136 IO (io), 137 IO (io), 139 IO (io), 140 IO (io), 141 IO (io), 142 IO (io), 143 IO (io), 144 IO (io), 145 IO (io), 146 IO (io), 147 IO (io), 148 IO (io), 149 IO (io), 150 IO (io), 151 IO (io), 152 CLKA/IO (io), 153 CLKB/IO (io), 157 PRA/IO (io), 159 IO (io), 160 IO (io), 161 IO (io), 162 IO (io), 163 IO (io), 164 IO (io), 165 IO (io), 166 IO (io), 167 IO (io), 168 IO (io), 169 IO (io), 171 IO (io), 172 IO (io), 173 IO (io), 174 IO (io), 175 IO (io), 176 DCLK/IO (io)
part B pins: 1 GND (power), 11 VCC (power), 20 NC, 21 GND (power), 22 VCC (power), 23 GND (power), 32 VCC (power), 33 VCC (power), 44 GND (power), 49 NC, 51 NC, 63 NC, 65 GND (power), 66 VCC (power), 67 VCC (power), 82 NC, 83 NC, 89 GND (power), 98 VCC (power), 99 VCC (power), 108 GND (power), 109 VCC (power), 110 GND (power), 119 NC, 121 NC, 122 VCC (power), 123 GND (power), 124 VCC (power), 133 GND (power), 138 NC, 154 VCC (power), 155 GND (power), 156 VCC (power), 158 NC, 170 NC

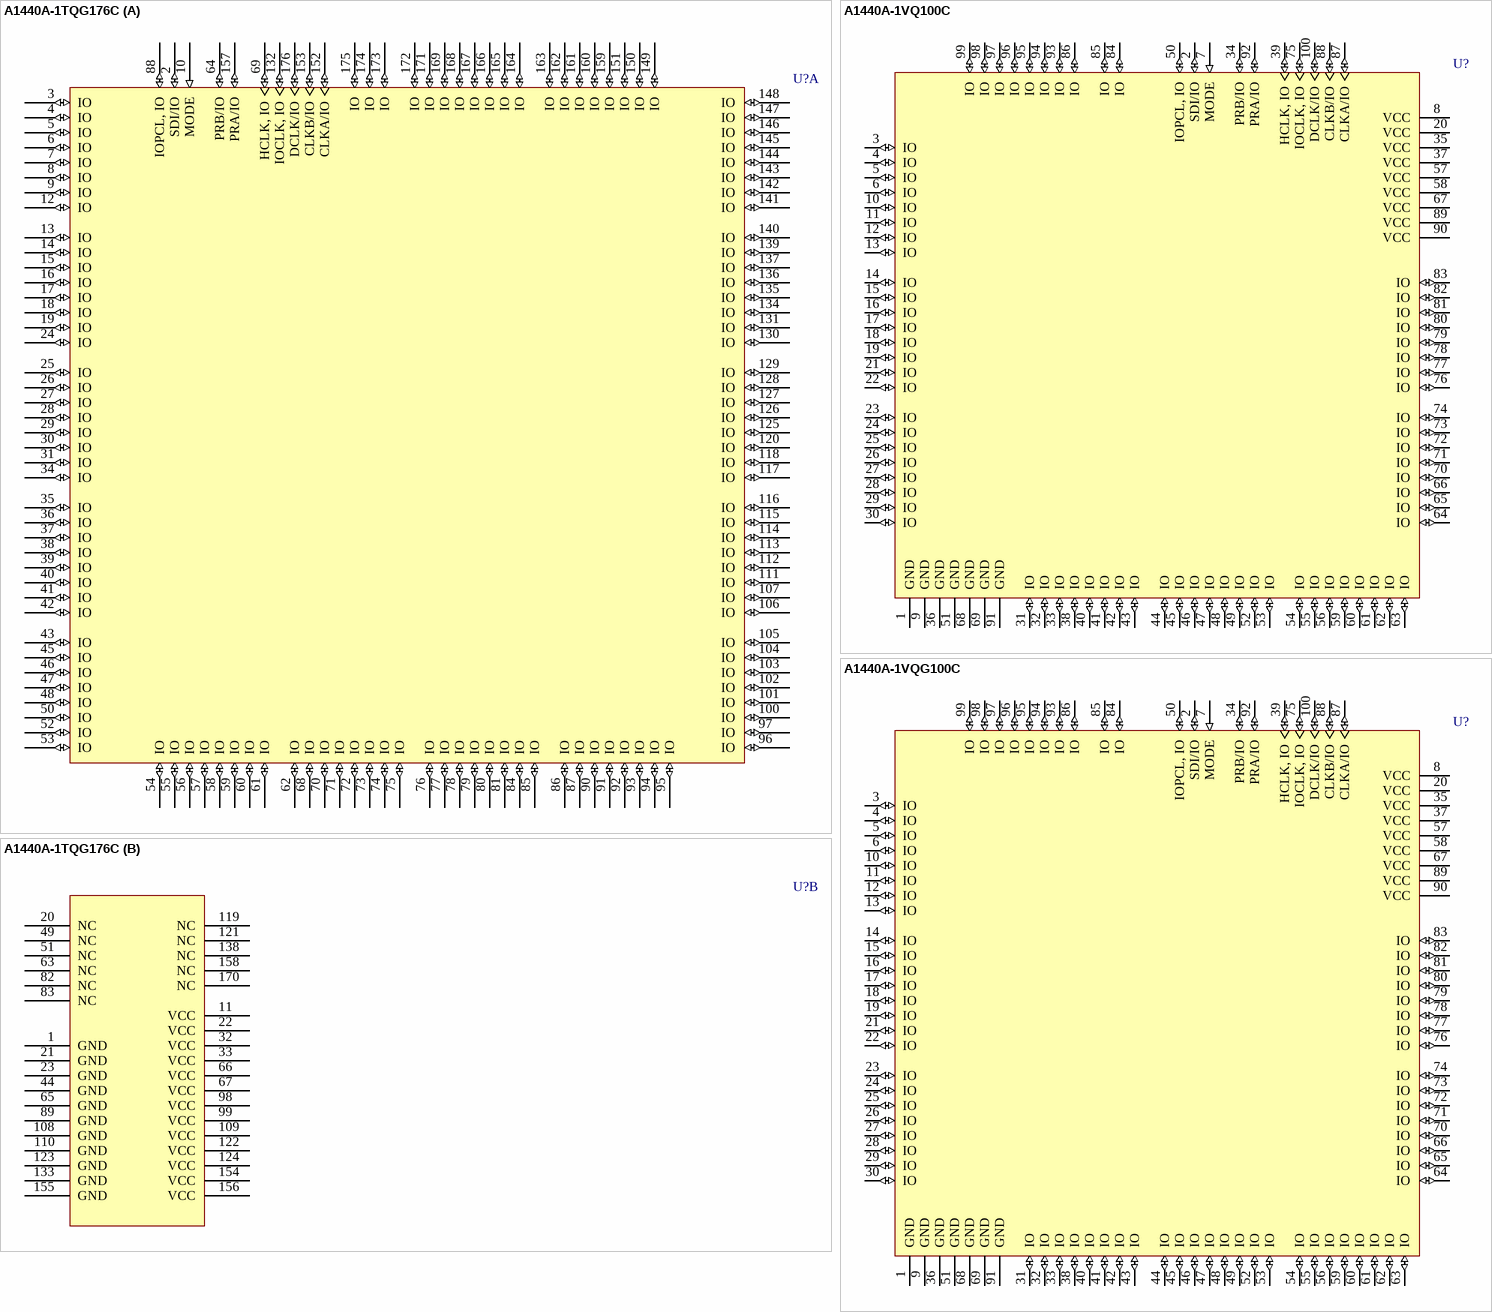
[diagram p52: symbols A1440A-1TQG176C to A1440A-1VQG100C]

## A1440A-1TQG176C
designator U?
ACT 3 Series 5V FPGA, 140 User I/Os, 176 pin TQFP, Speed Grade 1, Commercial Grade, Pb-Free; Published: 11-Dec-2009; DatasheetVersion: Sep-1997; PackageVersion: ver11.2, Nov-2009; PackageReference: TQ176; Publisher: Altium Limited; PackageDescription: 176-Pin Plastic Quad Flat Pack (TQ176); Code_JEDEC: MS-026-BCA; ComponentLink1Description: ACT3 Datasheet; ComponentLink1URL: http://www.actel.com/documents/ACT3_DS.pdf; ComponentLink2Description: Package Mechanical Drawings; ComponentLink2URL: http://www.actel.com/documents/PckgMechDrwngs.pdf; ComponentLink3Description: Legacy FPGA Documents; ComponentLink3URL: http://www.actel.com/techdocs/ds/legacy.aspx
footprint TQ176_N (Thin QFP, 176-Leads, Body 24x24mm, Pitch 0.5mm, IPC Medium Density)
footprint TQ176_L (Thin QFP, 176-Leads, Body 24x24mm, Pitch 0.5mm, IPC High Density)
footprint TQ176_M (Thin QFP, 176-Leads, Body 24x24mm, Pitch 0.5mm, IPC Low Density)
part A pins: 2 SDI/IO (io), 3 IO (io), 4 IO (io), 5 IO (io), 6 IO (io), 7 IO (io), 8 IO (io), 9 IO (io), 10 MODE (in), 12 IO (io), 13 IO (io), 14 IO (io), 15 IO (io), 16 IO (io), 17 IO (io), 18 IO (io), 19 IO (io), 24 IO (io), 25 IO (io), 26 IO (io), 27 IO (io), 28 IO (io), 29 IO (io), 30 IO (io), 31 IO (io), 34 IO (io), 35 IO (io), 36 IO (io), 37 IO (io), 38 IO (io), 39 IO (io), 40 IO (io), 41 IO (io), 42 IO (io), 43 IO (io), 45 IO (io), 46 IO (io), 47 IO (io), 48 IO (io), 50 IO (io), 52 IO (io), 53 IO (io), 54 IO (io), 55 IO (io), 56 IO (io), 57 IO (io), 58 IO (io), 59 IO (io), 60 IO (io), 61 IO (io), 62 IO (io), 64 PRB/IO (io), 68 IO (io), 69 HCLK, IO (io), 70 IO (io), 71 IO (io), 72 IO (io), 73 IO (io), 74 IO (io), 75 IO (io), 76 IO (io), 77 IO (io), 78 IO (io), 79 IO (io), 80 IO (io), 81 IO (io), 84 IO (io), 85 IO (io), 86 IO (io), 87 IO (io), 88 IOPCL, IO (io), 90 IO (io), 91 IO (io), 92 IO (io), 93 IO (io), 94 IO (io), 95 IO (io), 96 IO (io), 97 IO (io), 100 IO (io), 101 IO (io), 102 IO (io), 103 IO (io), 104 IO (io), 105 IO (io), 106 IO (io), 107 IO (io), 111 IO (io), 112 IO (io), 113 IO (io), 114 IO (io), 115 IO (io), 116 IO (io), 117 IO (io), 118 IO (io), 120 IO (io), 125 IO (io), 126 IO (io), 127 IO (io), 128 IO (io), 129 IO (io), 130 IO (io), 131 IO (io), 132 IOCLK, IO (io), 134 IO (io), 135 IO (io), 136 IO (io), 137 IO (io), 139 IO (io), 140 IO (io), 141 IO (io), 142 IO (io), 143 IO (io), 144 IO (io), 145 IO (io), 146 IO (io), 147 IO (io), 148 IO (io), 149 IO (io), 150 IO (io), 151 IO (io), 152 CLKA/IO (io), 153 CLKB/IO (io), 157 PRA/IO (io), 159 IO (io), 160 IO (io), 161 IO (io), 162 IO (io), 163 IO (io), 164 IO (io), 165 IO (io), 166 IO (io), 167 IO (io), 168 IO (io), 169 IO (io), 171 IO (io), 172 IO (io), 173 IO (io), 174 IO (io), 175 IO (io), 176 DCLK/IO (io)
part B pins: 1 GND (power), 11 VCC (power), 20 NC, 21 GND (power), 22 VCC (power), 23 GND (power), 32 VCC (power), 33 VCC (power), 44 GND (power), 49 NC, 51 NC, 63 NC, 65 GND (power), 66 VCC (power), 67 VCC (power), 82 NC, 83 NC, 89 GND (power), 98 VCC (power), 99 VCC (power), 108 GND (power), 109 VCC (power), 110 GND (power), 119 NC, 121 NC, 122 VCC (power), 123 GND (power), 124 VCC (power), 133 GND (power), 138 NC, 154 VCC (power), 155 GND (power), 156 VCC (power), 158 NC, 170 NC

## A1440A-1VQ100C
designator U?
ACT 3 Series 5V FPGA, 83 User I/Os, 100 pin Very Thin QFP, Speed Grade 1, Commercial Grade; Published: 24-Nov-2000; LatestRevisionDate: 13-Apr-2006; LatestRevisionNote: IPC-7351 Footprint Added.; DatasheetVersion: Sep-1997; PackageVersion: ver11.2, Nov-2009; PackageReference: VQ100; Publisher: Altium Limited; PackageDescription: 100-Pin Plastic Quad Flat Pack (VQ100); Code_JEDEC: MS-026-AED; ComponentLink1Description: ACT3 Datasheet; ComponentLink1URL: http://www.actel.com/documents/ACT3_DS.pdf; ComponentLink2Description: Package Mechanical Drawings; ComponentLink2URL: http://www.actel.com/documents/PckgMechDrwngs.pdf; ComponentLink3Description: Legacy FPGA Documents; ComponentLink3URL: http://www.actel.com/techdocs/ds/legacy.aspx
footprint VQ100_N (Thin QFP, 100-Leads, Body 14x14mm, Pitch 0.5mm, IPC Medium Density)
footprint VQ100_L (Thin QFP, 100-Leads, Body 14x14mm, Pitch 0.5mm, IPC High Density)
footprint VQ100_M (Thin QFP, 100-Leads, Body 14x14mm, Pitch 0.5mm, IPC Low Density)
pins: 1 GND (power), 2 SDI/IO (io), 3 IO (io), 4 IO (io), 5 IO (io), 6 IO (io), 7 MODE (in), 8 VCC (power), 9 GND (power), 10 IO (io), 11 IO (io), 12 IO (io), 13 IO (io), 14 IO (io), 15 IO (io), 16 IO (io), 17 IO (io), 18 IO (io), 19 IO (io), 20 VCC (power), 21 IO (io), 22 IO (io), 23 IO (io), 24 IO (io), 25 IO (io), 26 IO (io), 27 IO (io), 28 IO (io), 29 IO (io), 30 IO (io), 31 IO (io), 32 IO (io), 33 IO (io), 34 PRB/IO (io), 35 VCC (power), 36 GND (power), 37 VCC (power), 38 IO (io), 39 HCLK, IO (io), 40 IO (io), 41 IO (io), 42 IO (io), 43 IO (io), 44 IO (io), 45 IO (io), 46 IO (io), 47 IO (io), 48 IO (io), 49 IO (io), 50 IOPCL, IO (io), 51 GND (power), 52 IO (io), 53 IO (io), 54 IO (io), 55 IO (io), 56 IO (io), 57 VCC (power), 58 VCC (power), 59 IO (io), 60 IO (io), 61 IO (io), 62 IO (io), 63 IO (io), 64 IO (io), 65 IO (io), 66 IO (io), 67 VCC (power), 68 GND (power), 69 GND (power), 70 IO (io), 71 IO (io), 72 IO (io), 73 IO (io), 74 IO (io), 75 IOCLK, IO (io), 76 IO (io), 77 IO (io), 78 IO (io), 79 IO (io), 80 IO (io), 81 IO (io), 82 IO (io), 83 IO (io), 84 IO (io), 85 IO (io), 86 IO (io), 87 CLKA/IO (io), 88 CLKB/IO (io), 89 VCC (power), 90 VCC (power), 91 GND (power), 92 PRA/IO (io), 93 IO (io), 94 IO (io), 95 IO (io), 96 IO (io), 97 IO (io), 98 IO (io), 99 IO (io), 100 DCLK/IO (io)

## A1440A-1VQG100C
designator U?
ACT 3 Series 5V FPGA, 83 User I/Os, 100 pin Very Thin QFP, Speed Grade 1, Commercial Grade, Pb-Free; Published: 11-Dec-2009; DatasheetVersion: Sep-1997; PackageVersion: ver11.2, Nov-2009; PackageReference: VQ100; Publisher: Altium Limited; PackageDescription: 100-Pin Plastic Quad Flat Pack (VQ100); Code_JEDEC: MS-026-AED; ComponentLink1Description: ACT3 Datasheet; ComponentLink1URL: http://www.actel.com/documents/ACT3_DS.pdf; ComponentLink2Description: Package Mechanical Drawings; ComponentLink2URL: http://www.actel.com/documents/PckgMechDrwngs.pdf; ComponentLink3Description: Legacy FPGA Documents; ComponentLink3URL: http://www.actel.com/techdocs/ds/legacy.aspx
footprint VQ100_N (Thin QFP, 100-Leads, Body 14x14mm, Pitch 0.5mm, IPC Medium Density)
footprint VQ100_L (Thin QFP, 100-Leads, Body 14x14mm, Pitch 0.5mm, IPC High Density)
footprint VQ100_M (Thin QFP, 100-Leads, Body 14x14mm, Pitch 0.5mm, IPC Low Density)
pins: 1 GND (power), 2 SDI/IO (io), 3 IO (io), 4 IO (io), 5 IO (io), 6 IO (io), 7 MODE (in), 8 VCC (power), 9 GND (power), 10 IO (io), 11 IO (io), 12 IO (io), 13 IO (io), 14 IO (io), 15 IO (io), 16 IO (io), 17 IO (io), 18 IO (io), 19 IO (io), 20 VCC (power), 21 IO (io), 22 IO (io), 23 IO (io), 24 IO (io), 25 IO (io), 26 IO (io), 27 IO (io), 28 IO (io), 29 IO (io), 30 IO (io), 31 IO (io), 32 IO (io), 33 IO (io), 34 PRB/IO (io), 35 VCC (power), 36 GND (power), 37 VCC (power), 38 IO (io), 39 HCLK, IO (io), 40 IO (io), 41 IO (io), 42 IO (io), 43 IO (io), 44 IO (io), 45 IO (io), 46 IO (io), 47 IO (io), 48 IO (io), 49 IO (io), 50 IOPCL, IO (io), 51 GND (power), 52 IO (io), 53 IO (io), 54 IO (io), 55 IO (io), 56 IO (io), 57 VCC (power), 58 VCC (power), 59 IO (io), 60 IO (io), 61 IO (io), 62 IO (io), 63 IO (io), 64 IO (io), 65 IO (io), 66 IO (io), 67 VCC (power), 68 GND (power), 69 GND (power), 70 IO (io), 71 IO (io), 72 IO (io), 73 IO (io), 74 IO (io), 75 IOCLK, IO (io), 76 IO (io), 77 IO (io), 78 IO (io), 79 IO (io), 80 IO (io), 81 IO (io), 82 IO (io), 83 IO (io), 84 IO (io), 85 IO (io), 86 IO (io), 87 CLKA/IO (io), 88 CLKB/IO (io), 89 VCC (power), 90 VCC (power), 91 GND (power), 92 PRA/IO (io), 93 IO (io), 94 IO (io), 95 IO (io), 96 IO (io), 97 IO (io), 98 IO (io), 99 IO (io), 100 DCLK/IO (io)

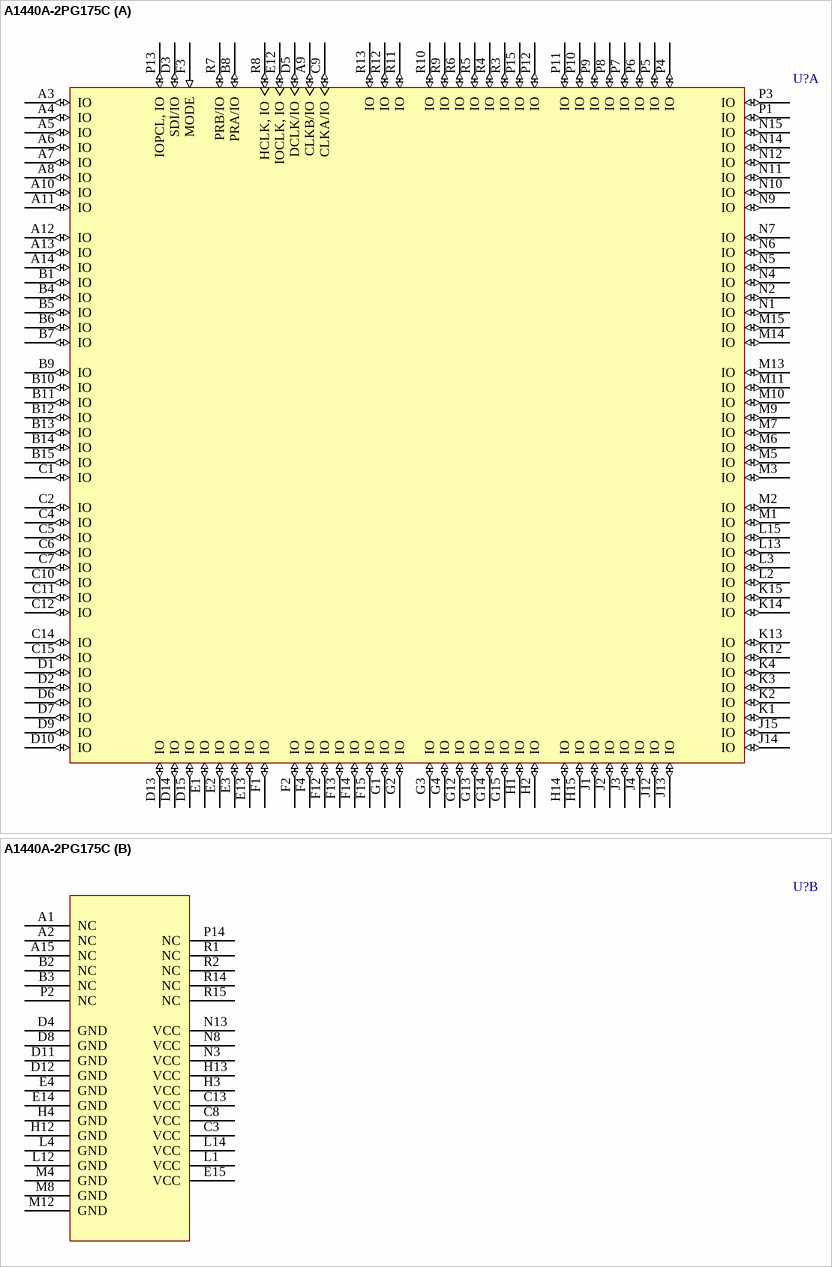
[diagram p53: symbol A1440A-2PG175C]

## A1440A-2PG175C
designator U?
ACT 3 Series 5V FPGA, 140 User I/Os, 175 pin CPGA, Speed Grade 2, Commercial Grade; Published: 24-Nov-2000; LatestRevisionDate: 04-Mar-2005; LatestRevisionNote: Stylized 3D Model Added.; DatasheetVersion: Sep-1997; PackageVersion: ver11.2, Nov-2009; PackageReference: PG175; Publisher: Altium Limited; PackageDescription: 175-Pin Ceramic Pin Grid Array (PG175); ComponentLink1Description: ACT3 Datasheet; ComponentLink1URL: http://www.actel.com/documents/ACT3_DS.pdf; ComponentLink2Description: Package Mechanical Drawings; ComponentLink2URL: http://www.actel.com/documents/PckgMechDrwngs.pdf; ComponentLink3Description: Legacy FPGA Documents; ComponentLink3URL: http://www.actel.com/techdocs/ds/legacy.aspx
footprint PG175 (PGA, 176-Leads, Body 39.9x39.9mm, Pitch 2.54mm)
part A pins: A3 IO (io), A4 IO (io), A5 IO (io), A6 IO (io), A7 IO (io), A8 IO (io), A9 CLKB/IO (io), A10 IO (io), A11 IO (io), A12 IO (io), A13 IO (io), A14 IO (io), B1 IO (io), B4 IO (io), B5 IO (io), B6 IO (io), B7 IO (io), B8 PRA/IO (io), B9 IO (io), B10 IO (io), B11 IO (io), B12 IO (io), B13 IO (io), B14 IO (io), B15 IO (io), C1 IO (io), C2 IO (io), C4 IO (io), C5 IO (io), C6 IO (io), C7 IO (io), C9 CLKA/IO (io), C10 IO (io), C11 IO (io), C12 IO (io), C14 IO (io), C15 IO (io), D1 IO (io), D2 IO (io), D3 SDI/IO (io), D5 DCLK/IO (io), D6 IO (io), D7 IO (io), D9 IO (io), D10 IO (io), D13 IO (io), D14 IO (io), D15 IO (io), E1 IO (io), E2 IO (io), E3 IO (io), E12 IOCLK, IO (io), E13 IO (io), F1 IO (io), F2 IO (io), F3 MODE (in), F4 IO (io), F12 IO (io), F13 IO (io), F14 IO (io), F15 IO (io), G1 IO (io), G2 IO (io), G3 IO (io), G4 IO (io), G12 IO (io), G13 IO (io), G14 IO (io), G15 IO (io), H1 IO (io), H2 IO (io), H14 IO (io), H15 IO (io), J1 IO (io), J2 IO (io), J3 IO (io), J4 IO (io), J12 IO (io), J13 IO (io), J14 IO (io), J15 IO (io), K1 IO (io), K2 IO (io), K3 IO (io), K4 IO (io), K12 IO (io), K13 IO (io), K14 IO (io), K15 IO (io), L2 IO (io), L3 IO (io), L13 IO (io), L15 IO (io), M1 IO (io), M2 IO (io), M3 IO (io), M5 IO (io), M6 IO (io), M7 IO (io), M9 IO (io), M10 IO (io), M11 IO (io), M13 IO (io), M14 IO (io), M15 IO (io), N1 IO (io), N2 IO (io), N4 IO (io), N5 IO (io), N6 IO (io), N7 IO (io), N9 IO (io), N10 IO (io), N11 IO (io), N12 IO (io), N14 IO (io), N15 IO (io), P1 IO (io), P3 IO (io), P4 IO (io), P5 IO (io), P6 IO (io), P7 IO (io), P8 IO (io), P9 IO (io), P10 IO (io), P11 IO (io), P12 IO (io), P13 IOPCL, IO (io), P15 IO (io), R3 IO (io), R4 IO (io), R5 IO (io), R6 IO (io), R7 PRB/IO (io), R8 HCLK, IO (io), R9 IO (io), R10 IO (io), R11 IO (io), R12 IO (io), R13 IO (io)
part B pins: A1 NC, A2 NC, A15 NC, B2 NC, B3 NC, C3 VCC (power), C8 VCC (power), C13 VCC (power), D4 GND (power), D8 GND (power), D11 GND (power), D12 GND (power), E4 GND (power), E14 GND (power), E15 VCC (power), H3 VCC (power), H4 GND (power), H12 GND (power), H13 VCC (power), L1 VCC (power), L4 GND (power), L12 GND (power), L14 VCC (power), M4 GND (power), M8 GND (power), M12 GND (power), N3 VCC (power), N8 VCC (power), N13 VCC (power), P2 NC, P14 NC, R1 NC, R2 NC, R14 NC, R15 NC

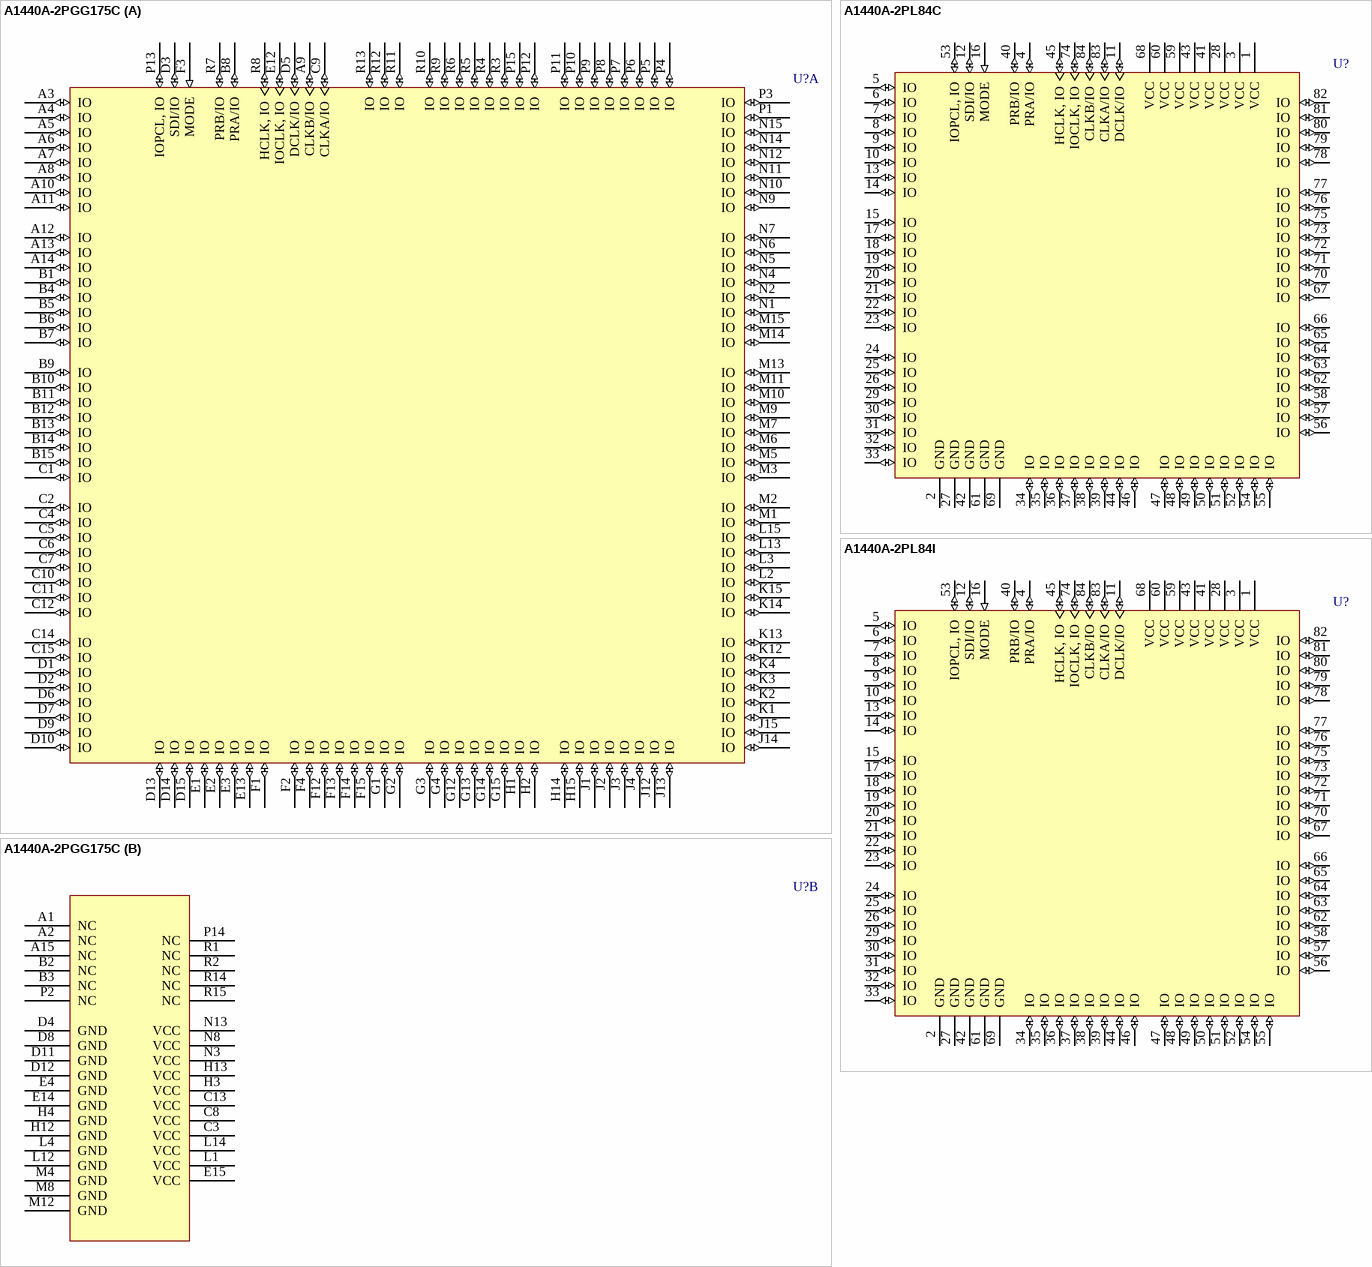
[diagram p54: symbols A1440A-2PGG175C to A1440A-2PL84I]

## A1440A-2PGG175C
designator U?
ACT 3 Series 5V FPGA, 140 User I/Os, 175 pin CPGA, Speed Grade 2, Commercial Grade, Pb-Free; Published: 11-Dec-2009; DatasheetVersion: Sep-1997; PackageVersion: ver11.2, Nov-2009; PackageReference: PG175; Publisher: Altium Limited; PackageDescription: 175-Pin Ceramic Pin Grid Array (PG175); ComponentLink1Description: ACT3 Datasheet; ComponentLink1URL: http://www.actel.com/documents/ACT3_DS.pdf; ComponentLink2Description: Package Mechanical Drawings; ComponentLink2URL: http://www.actel.com/documents/PckgMechDrwngs.pdf; ComponentLink3Description: Legacy FPGA Documents; ComponentLink3URL: http://www.actel.com/techdocs/ds/legacy.aspx
footprint PG175 (PGA, 176-Leads, Body 39.9x39.9mm, Pitch 2.54mm)
part A pins: A3 IO (io), A4 IO (io), A5 IO (io), A6 IO (io), A7 IO (io), A8 IO (io), A9 CLKB/IO (io), A10 IO (io), A11 IO (io), A12 IO (io), A13 IO (io), A14 IO (io), B1 IO (io), B4 IO (io), B5 IO (io), B6 IO (io), B7 IO (io), B8 PRA/IO (io), B9 IO (io), B10 IO (io), B11 IO (io), B12 IO (io), B13 IO (io), B14 IO (io), B15 IO (io), C1 IO (io), C2 IO (io), C4 IO (io), C5 IO (io), C6 IO (io), C7 IO (io), C9 CLKA/IO (io), C10 IO (io), C11 IO (io), C12 IO (io), C14 IO (io), C15 IO (io), D1 IO (io), D2 IO (io), D3 SDI/IO (io), D5 DCLK/IO (io), D6 IO (io), D7 IO (io), D9 IO (io), D10 IO (io), D13 IO (io), D14 IO (io), D15 IO (io), E1 IO (io), E2 IO (io), E3 IO (io), E12 IOCLK, IO (io), E13 IO (io), F1 IO (io), F2 IO (io), F3 MODE (in), F4 IO (io), F12 IO (io), F13 IO (io), F14 IO (io), F15 IO (io), G1 IO (io), G2 IO (io), G3 IO (io), G4 IO (io), G12 IO (io), G13 IO (io), G14 IO (io), G15 IO (io), H1 IO (io), H2 IO (io), H14 IO (io), H15 IO (io), J1 IO (io), J2 IO (io), J3 IO (io), J4 IO (io), J12 IO (io), J13 IO (io), J14 IO (io), J15 IO (io), K1 IO (io), K2 IO (io), K3 IO (io), K4 IO (io), K12 IO (io), K13 IO (io), K14 IO (io), K15 IO (io), L2 IO (io), L3 IO (io), L13 IO (io), L15 IO (io), M1 IO (io), M2 IO (io), M3 IO (io), M5 IO (io), M6 IO (io), M7 IO (io), M9 IO (io), M10 IO (io), M11 IO (io), M13 IO (io), M14 IO (io), M15 IO (io), N1 IO (io), N2 IO (io), N4 IO (io), N5 IO (io), N6 IO (io), N7 IO (io), N9 IO (io), N10 IO (io), N11 IO (io), N12 IO (io), N14 IO (io), N15 IO (io), P1 IO (io), P3 IO (io), P4 IO (io), P5 IO (io), P6 IO (io), P7 IO (io), P8 IO (io), P9 IO (io), P10 IO (io), P11 IO (io), P12 IO (io), P13 IOPCL, IO (io), P15 IO (io), R3 IO (io), R4 IO (io), R5 IO (io), R6 IO (io), R7 PRB/IO (io), R8 HCLK, IO (io), R9 IO (io), R10 IO (io), R11 IO (io), R12 IO (io), R13 IO (io)
part B pins: A1 NC, A2 NC, A15 NC, B2 NC, B3 NC, C3 VCC (power), C8 VCC (power), C13 VCC (power), D4 GND (power), D8 GND (power), D11 GND (power), D12 GND (power), E4 GND (power), E14 GND (power), E15 VCC (power), H3 VCC (power), H4 GND (power), H12 GND (power), H13 VCC (power), L1 VCC (power), L4 GND (power), L12 GND (power), L14 VCC (power), M4 GND (power), M8 GND (power), M12 GND (power), N3 VCC (power), N8 VCC (power), N13 VCC (power), P2 NC, P14 NC, R1 NC, R2 NC, R14 NC, R15 NC

## A1440A-2PL84C
designator U?
ACT 3 Series 5V FPGA, 70 User I/Os, 84 pin PLCC, Speed Grade 2, Commercial Grade; Published: 24-Nov-2000; LatestRevisionDate: 13-Apr-2006; LatestRevisionNote: IPC-7351 Footprint Added.; DatasheetVersion: Sep-1997; PackageVersion: ver11.2, Nov-2009; PackageReference: PL84; Publisher: Altium Limited; PackageDescription: 84-Pin Plastic Leaded Chip Carrier (PL84); Code_JEDEC: MS-018-AF; Code_IPC: PLCC-84; ComponentLink1Description: ACT3 Datasheet; ComponentLink1URL: http://www.actel.com/documents/ACT3_DS.pdf; ComponentLink2Description: Package Mechanical Drawings; ComponentLink2URL: http://www.actel.com/documents/PckgMechDrwngs.pdf; ComponentLink3Description: Legacy FPGA Documents; ComponentLink3URL: http://www.actel.com/techdocs/ds/legacy.aspx
footprint PL84_N (Leaded Chip Carrier, 84-Leads, Body 29.3x29.3mm, Pitch 1.27mm, IPC Medium Density)
footprint PL84_L (Leaded Chip Carrier, 84-Leads, Body 29.3x29.3mm, Pitch 1.27mm, IPC High Density)
footprint PL84_M (Leaded Chip Carrier, 84-Leads, Body 29.3x29.3mm, Pitch 1.27mm, IPC Low Density)
pins: 1 VCC (power), 2 GND (power), 3 VCC (power), 4 PRA/IO (io), 5 IO (io), 6 IO (io), 7 IO (io), 8 IO (io), 9 IO (io), 10 IO (io), 11 DCLK/IO (io), 12 SDI/IO (io), 13 IO (io), 14 IO (io), 15 IO (io), 16 MODE (in), 17 IO (io), 18 IO (io), 19 IO (io), 20 IO (io), 21 IO (io), 22 IO (io), 23 IO (io), 24 IO (io), 25 IO (io), 26 IO (io), 27 GND (power), 28 VCC (power), 29 IO (io), 30 IO (io), 31 IO (io), 32 IO (io), 33 IO (io), 34 IO (io), 35 IO (io), 36 IO (io), 37 IO (io), 38 IO (io), 39 IO (io), 40 PRB/IO (io), 41 VCC (power), 42 GND (power), 43 VCC (power), 44 IO (io), 45 HCLK, IO (io), 46 IO (io), 47 IO (io), 48 IO (io), 49 IO (io), 50 IO (io), 51 IO (io), 52 IO (io), 53 IOPCL, IO (io), 54 IO (io), 55 IO (io), 56 IO (io), 57 IO (io), 58 IO (io), 59 VCC (power), 60 VCC (power), 61 GND (power), 62 IO (io), 63 IO (io), 64 IO (io), 65 IO (io), 66 IO (io), 67 IO (io), 68 VCC (power), 69 GND (power), 70 IO (io), 71 IO (io), 72 IO (io), 73 IO (io), 74 IOCLK, IO (io), 75 IO (io), 76 IO (io), 77 IO (io), 78 IO (io), 79 IO (io), 80 IO (io), 81 IO (io), 82 IO (io), 83 CLKA/IO (io), 84 CLKB/IO (io)